# Altium schematic symbol library adafruit.SCHLIB: 884 symbols (part 10 of 15)
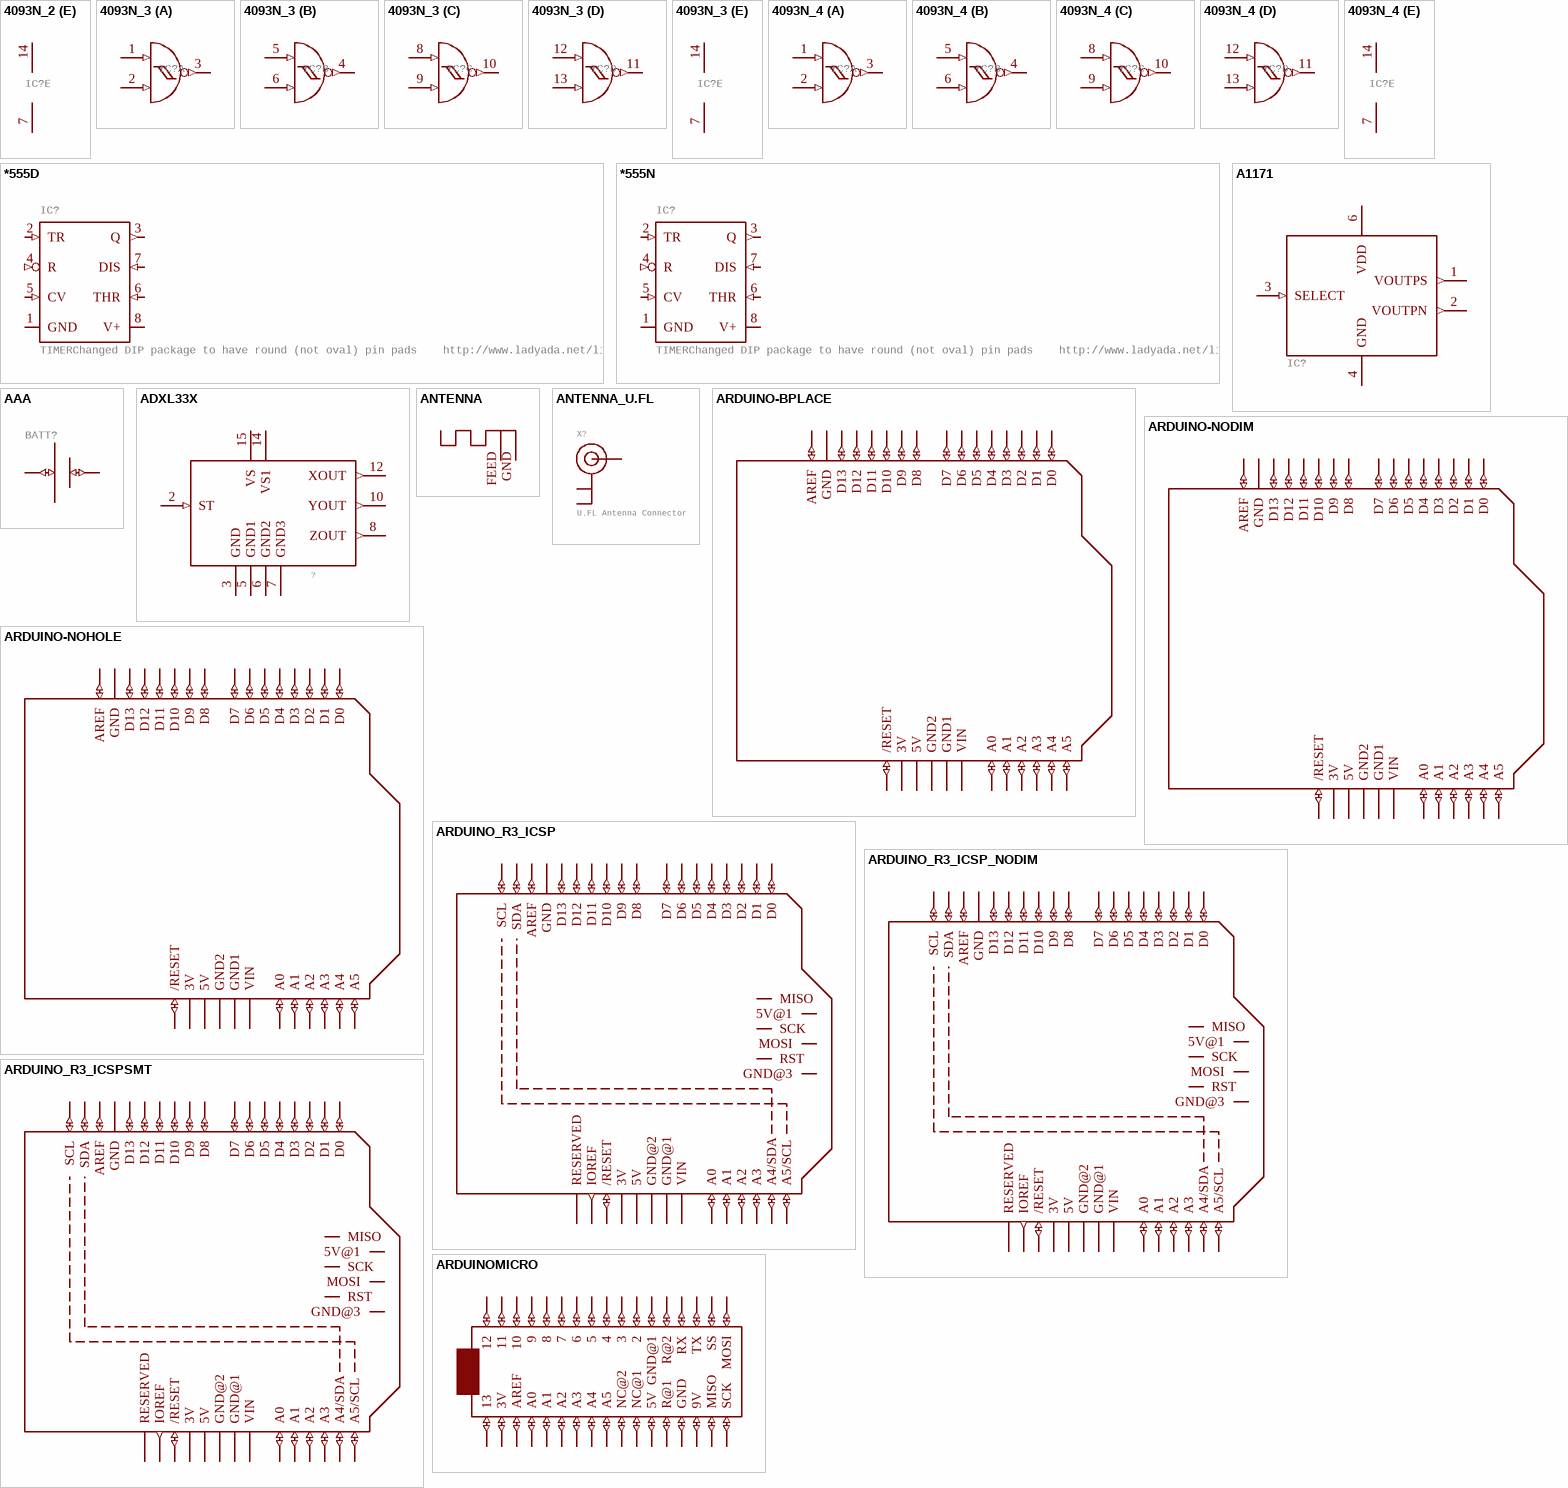
[diagram p197: symbols 4093N_2 to ARDUINOMICRO]

## AAA
designator BATT?, comment AAA PC pin holder   Mouser part #12BH412 - but pretty much any 1x AAA battery holder should be the same    http://www.ladyada.net/library/pcb/eaglelibrary.html  (value not drawn)
GateName_1: G$1; SymbolName_1: AAA; LibraryName: adafruit; DeviceSetName: AAA; Package: 12BH412
footprint 12BH412
pins: + (io), - (io)

## ADXL33X
designator ?
GateName_1: G$1; SymbolName_1: ADXL33X; LibraryName: adafruit; DeviceSetName: ADXL33X; Package: 16LCSP
footprint 16LCSP
pins: 2 ST (in), 3 GND (power), 5 GND1 (power), 6 GND2 (power), 7 GND3 (power), 8 ZOUT (out), 10 YOUT (out), 12 XOUT (out), 14 VS1 (power), 15 VS (power)

## ANTENNA
designator ANT?
GateName_1: G$1; SymbolName_1: ANT; DeviceSetName: ANTENNA; LibraryName: adafruit; Package: RN-ANT
footprint RN-ANT
pins: FEED, GND

## ANTENNA_U.FL
designator X?, comment U.FL Antenna Connector
GateName_1: G$1; DeviceSetName: ANTENNA_U.FL; SymbolName_1: U.FL; LibraryName: adafruit; Package: U.FL
footprint U.FL
pins: 1 GND@0, 2 GND@1, 3 SIGNAL

## ARDUINO-BPLACE
designator ?, comment Arduino Diecimila/Duemilanove   Make a shield with ease, this package has all the named pins as well as the two mounting drill holes and an outline of the USB and DC power connector. The outline is on the DIMENSION layer, so if your board house uses it they will cut the outline to match.    http://www.ladyada.net/library/pcb/eaglelibrary.html  (value not drawn)
GateName_1: G$1; DeviceName: -BPLACE; SymbolName_1: ARDUINO; LibraryName: adafruit; DeviceSetName: ARDUINO; Package: ARDUINO-BPLACE
footprint ARDUINO-BPLACE
pins: 3V (power), 5V (power), A0 (io), A1 (io), A2 (io), A3 (io), A4 (io), A5 (io), AREF (io), D0 (io), D1 (io), D2 (io), D3 (io), D4 (io), D5 (io), D6 (io), D7 (io), D8 (io), D9 (io), D10 (io), D11 (io), D12 (io), D13 (io), GND (power), GND1 (power), GND2 (power), RESET /RESET (io), VIN (power)

## ARDUINO-NODIM
designator ?, comment Arduino Diecimila/Duemilanove   Make a shield with ease, this package has all the named pins as well as the two mounting drill holes and an outline of the USB and DC power connector. The outline is on the DIMENSION layer, so if your board house uses it they will cut the outline to match.    http://www.ladyada.net/library/pcb/eaglelibrary.html  (value not drawn)
GateName_1: G$1; DeviceName: -NODIM; SymbolName_1: ARDUINO; LibraryName: adafruit; DeviceSetName: ARDUINO; Package: ARDUINO-NODIM
footprint ARDUINO-NODIM
pins: 3V (power), 5V (power), A0 (io), A1 (io), A2 (io), A3 (io), A4 (io), A5 (io), AREF (io), D0 (io), D1 (io), D2 (io), D3 (io), D4 (io), D5 (io), D6 (io), D7 (io), D8 (io), D9 (io), D10 (io), D11 (io), D12 (io), D13 (io), GND (power), GND1 (power), GND2 (power), RESET /RESET (io), VIN (power)

## ARDUINO-NOHOLE
designator ?, comment Arduino Diecimila/Duemilanove   Make a shield with ease, this package has all the named pins as well as the two mounting drill holes and an outline of the USB and DC power connector. The outline is on the DIMENSION layer, so if your board house uses it they will cut the outline to match.    http://www.ladyada.net/library/pcb/eaglelibrary.html  (value not drawn)
GateName_1: G$1; DeviceName: -NOHOLE; SymbolName_1: ARDUINO; LibraryName: adafruit; DeviceSetName: ARDUINO; Package: ARDUINO-NOHOLE
footprint ARDUINO-NOHOLE
pins: 3V (power), 5V (power), A0 (io), A1 (io), A2 (io), A3 (io), A4 (io), A5 (io), AREF (io), D0 (io), D1 (io), D2 (io), D3 (io), D4 (io), D5 (io), D6 (io), D7 (io), D8 (io), D9 (io), D10 (io), D11 (io), D12 (io), D13 (io), GND (power), GND1 (power), GND2 (power), RESET /RESET (io), VIN (power)

## ARDUINO_R3_ICSP
designator M?
GateName_1: G$1; SymbolName_1: ARDUINOR3-ICSP; DeviceSetName: ARDUINO_R3_ICSP; LibraryName: adafruit; Package: ARDUINOR3_ICSP
footprint ARDUINOR3_ICSP
pins: 3V (power), 5V (power), 5V_ICSP 5V@1, A0 (io), A1 (io), A2 (io), A3 (io), A4 A4/SDA (io), A5 A5/SCL (io), AREF (io), D0 (io), D1 (io), D2 (io), D3 (io), D4 (io), D5 (io), D6 (io), D7 (io), D8 (io), D9 (io), D10 (io), D11 (io), D12 (io), D13 (io), GND (power), GND@1 GND@2 (power), GND@2 GND@3, GND@3 GND@1 (power), IOREF (out), MISO, MOSI, RESERVED, RESET /RESET (io), RESET_ICSP RST, SCK, SCL (io), SDA (io), VIN (power)

## ARDUINO_R3_ICSP_NODIM
designator M?
GateName_1: G$1; SymbolName_1: ARDUINOR3-ICSP; DeviceName: _NODIM; DeviceSetName: ARDUINO_R3_ICSP; LibraryName: adafruit; Package: ARDUINOR3_ICSP_NODIM
footprint ARDUINOR3_ICSP_NODIM
pins: 3V (power), 5V (power), 5V_ICSP 5V@1, A0 (io), A1 (io), A2 (io), A3 (io), A4 A4/SDA (io), A5 A5/SCL (io), AREF (io), D0 (io), D1 (io), D2 (io), D3 (io), D4 (io), D5 (io), D6 (io), D7 (io), D8 (io), D9 (io), D10 (io), D11 (io), D12 (io), D13 (io), GND (power), GND@1 GND@2 (power), GND@2 GND@3, GND@3 GND@1 (power), IOREF (out), MISO, MOSI, RESERVED, RESET /RESET (io), RESET_ICSP RST, SCK, SCL (io), SDA (io), VIN (power)

## ARDUINO_R3_ICSPSMT
designator M?
GateName_1: G$1; SymbolName_1: ARDUINOR3-ICSP; DeviceName: SMT; DeviceSetName: ARDUINO_R3_ICSP; LibraryName: adafruit; Package: ARDUINOR3_ICSP_SMT
footprint ARDUINOR3_ICSP_SMT
pins: 3V (power), 5V (power), 5V_ICSP 5V@1, A0 (io), A1 (io), A2 (io), A3 (io), A4 A4/SDA (io), A5 A5/SCL (io), AREF (io), D0 (io), D1 (io), D2 (io), D3 (io), D4 (io), D5 (io), D6 (io), D7 (io), D8 (io), D9 (io), D10 (io), D11 (io), D12 (io), D13 (io), GND (power), GND@1 (power), GND@2 (power), GND@3, IOREF (out), MISO, MOSI, RESERVED, RESET /RESET (io), RESET_ICSP RST, SCK, SCL (io), SDA (io), VIN (power)

## ARDUINOMICRO
designator ?
GateName_1: G$1; SymbolName_1: ARDUINOMICRO; LibraryName: adafruit; DeviceSetName: ARDUINOMICRO; Package: ARDUINOMICRO
footprint ARDUINOMICRO
pins: P$1 12 (io), P$2 11 (io), P$3 10 (io), P$4 9 (io), P$5 8 (io), P$6 7 (io), P$7 6 (io), P$8 5 (io), P$9 4 (io), P$10 3 (io), P$11 2 (io), P$12 GND (io), P$13 R@1 (io), P$14 RX (io), P$15 TX (io), P$16 SS (io), P$17 MOSI (io), P$18 SCK (io), P$19 MISO (io), P$20 9V (io), P$21 GND@1 (io), P$22 R@2 (io), P$23 5V (io), P$24 NC@1 (io), P$25 NC@2 (io), P$26 A5 (io), P$27 A4 (io), P$28 A3 (io), P$29 A2 (io), P$30 A1 (io), P$31 A0 (io), P$32 AREF (io), P$33 3V (io), P$34 13 (io)

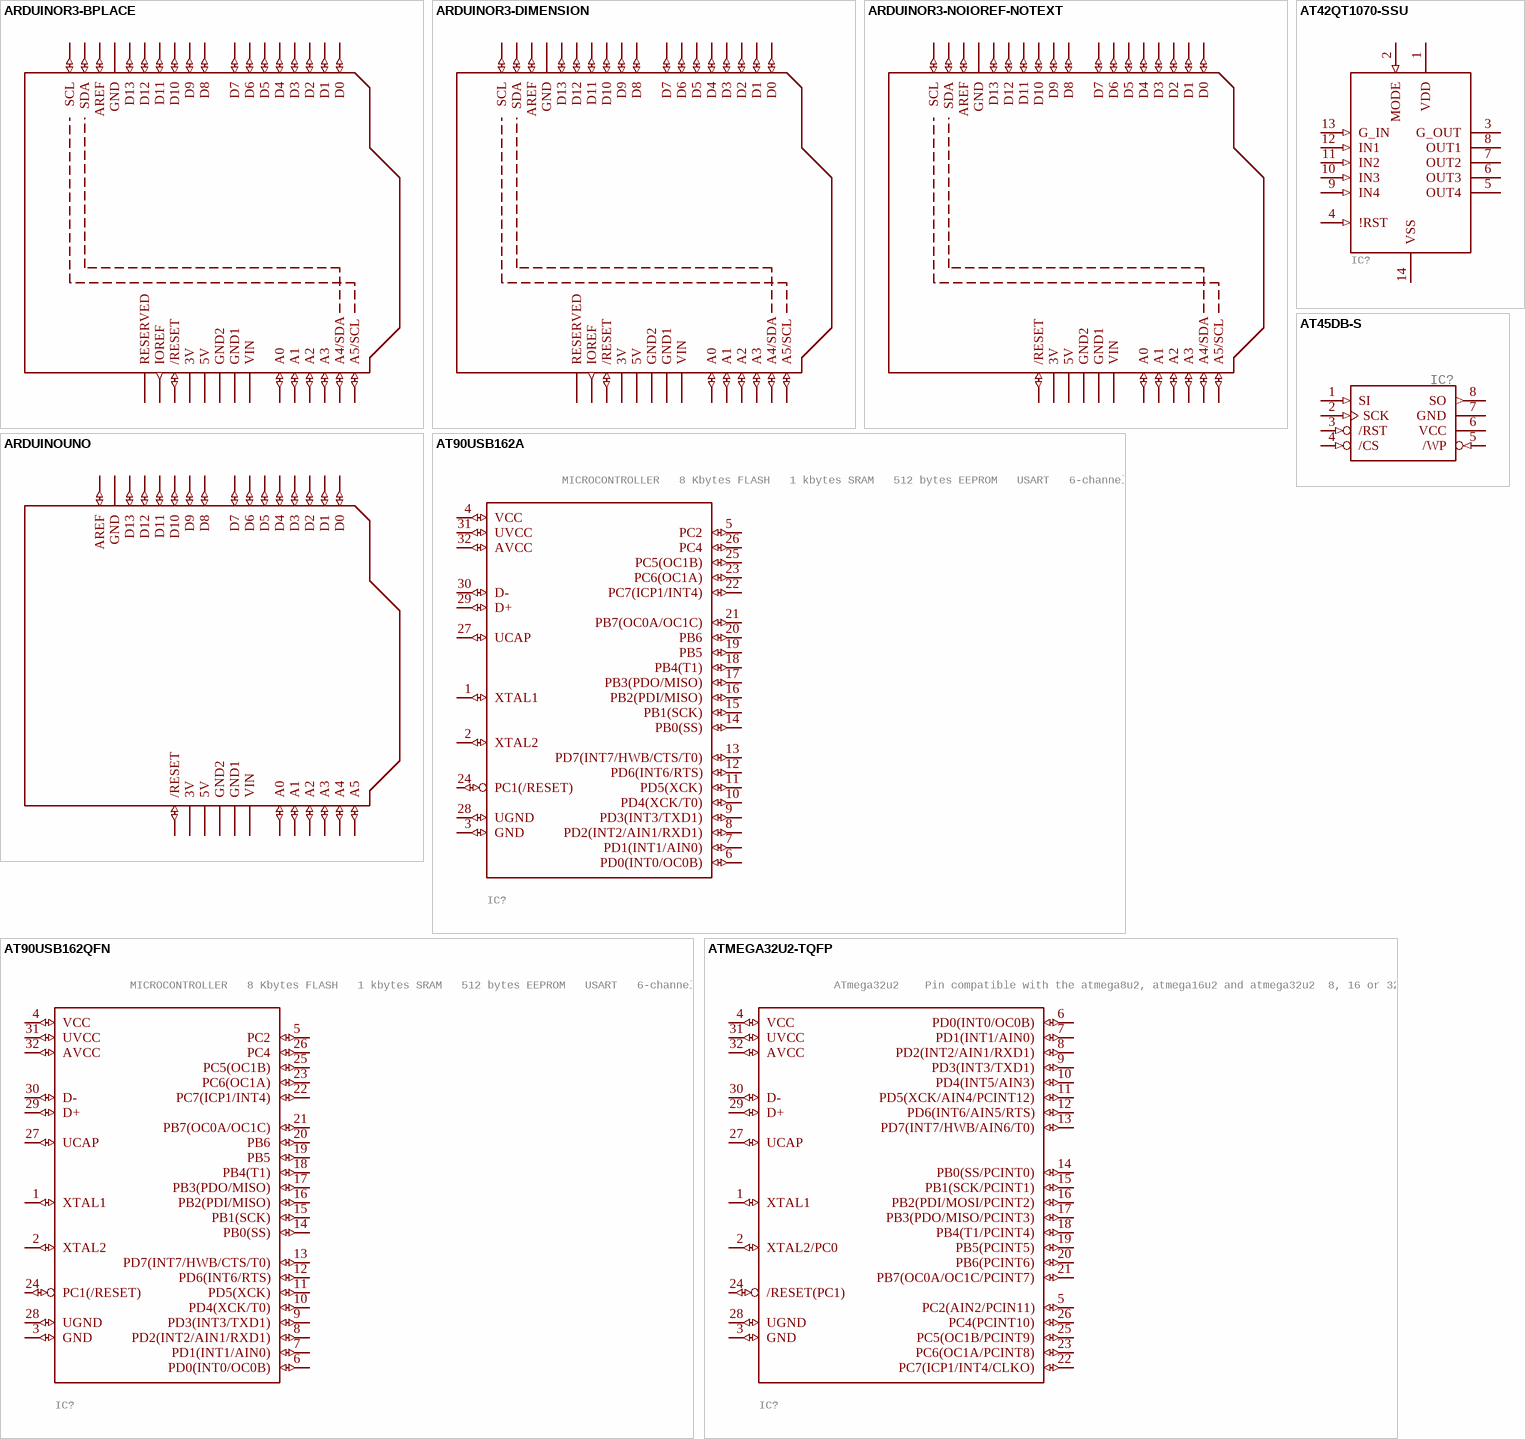
[diagram p165: symbols ARDUINOR3-BPLACE to ATMEGA32U2-TQFP]

## ARDUINOR3-BPLACE
designator U?, comment This is a new object for the new Arduino R3 - with extra pins that you may want to use (such as IOref, and duplicated A4/A5  (value not drawn)
GateName_1: G$1; DeviceName: -BPLACE; SymbolName_1: ARDUINOR3; LibraryName: adafruit; DeviceSetName: ARDUINOR3; Package: ARDUINOR3-BPLACE
footprint ARDUINOR3-BPLACE
pins: 3V (power), 5V (power), A0 (io), A1 (io), A2 (io), A3 (io), A4 A4/SDA (io), A5 A5/SCL (io), AREF (io), D0 (io), D1 (io), D2 (io), D3 (io), D4 (io), D5 (io), D6 (io), D7 (io), D8 (io), D9 (io), D10 (io), D11 (io), D12 (io), D13 (io), GND (power), GND1 (power), GND2 (power), IOREF (out), RESERVED, RESET /RESET (io), SCL (io), SDA (io), VIN (power)

## ARDUINOR3-DIMENSION
designator U?, comment This is a new object for the new Arduino R3 - with extra pins that you may want to use (such as IOref, and duplicated A4/A5  (value not drawn)
GateName_1: G$1; DeviceName: -DIMENSION; SymbolName_1: ARDUINOR3; LibraryName: adafruit; DeviceSetName: ARDUINOR3; Package: ARDUINOR3
footprint ARDUINOR3
pins: 3V (power), 5V (power), A0 (io), A1 (io), A2 (io), A3 (io), A4 A4/SDA (io), A5 A5/SCL (io), AREF (io), D0 (io), D1 (io), D2 (io), D3 (io), D4 (io), D5 (io), D6 (io), D7 (io), D8 (io), D9 (io), D10 (io), D11 (io), D12 (io), D13 (io), GND (power), GND1 (power), GND2 (power), IOREF (out), RESERVED, RESET /RESET (io), SCL (io), SDA (io), VIN (power)

## ARDUINOR3-NOIOREF-NOTEXT
designator Q?
GateName_1: G$1; SymbolName_1: ARDUINOR3-NOIOREF; DeviceName: -NOTEXT; LibraryName: adafruit; DeviceSetName: ARDUINOR3-NOIOREF; Package: ARDUINOR3-NOTEXT-NOIOREF
footprint ARDUINOR3-NOTEXT-NOIOREF
pins: 3V (power), 5V (power), A0 (io), A1 (io), A2 (io), A3 (io), A4 A4/SDA (io), A5 A5/SCL (io), AREF (io), D0 (io), D1 (io), D2 (io), D3 (io), D4 (io), D5 (io), D6 (io), D7 (io), D8 (io), D9 (io), D10 (io), D11 (io), D12 (io), D13 (io), GND (power), GND1 (power), GND2 (power), RESET /RESET (io), SCL (io), SDA (io), VIN (power)

## ARDUINOUNO
designator ?, comment Arduino Diecimila/Duemilanove   Make a shield with ease, this package has all the named pins as well as the two mounting drill holes and an outline of the USB and DC power connector. The outline is on the DIMENSION layer, so if your board house uses it they will cut the outline to match.    http://www.ladyada.net/library/pcb/eaglelibrary.html  (value not drawn)
GateName_1: G$1; DeviceName: UNO; SymbolName_1: ARDUINO; LibraryName: adafruit; DeviceSetName: ARDUINO; Package: ARDUINO
footprint ARDUINO
pins: 3V (power), 5V (power), A0 (io), A1 (io), A2 (io), A3 (io), A4 (io), A5 (io), AREF (io), D0 (io), D1 (io), D2 (io), D3 (io), D4 (io), D5 (io), D6 (io), D7 (io), D8 (io), D9 (io), D10 (io), D11 (io), D12 (io), D13 (io), GND (power), GND1 (power), GND2 (power), RESET /RESET (io), VIN (power)

## AT42QT1070-SSU
designator IC?, comment QTouch 5-channel standalone sensor IC AT42QT1070 in standalone mode has 5 inputs (guard + 4 key) and open drain outputs. 1.8V-5.5V power.  (value not drawn)
GateName_1: G$1; DeviceName: -SSU; SymbolName_1: AT42QT1070; LibraryName: adafruit; DeviceSetName: AT42QT1070; Package: SO14
footprint SO14
pins: 1 VDD (power), 2 MODE (in), 3 G_OUT (oc), 4 !RST (in), 5 OUT4 (oc), 6 OUT3 (oc), 7 OUT2 (oc), 8 OUT1 (oc), 9 IN4 (in), 10 IN3 (in), 11 IN2 (in), 12 IN1 (in), 13 G_IN (in), 14 VSS (power)

## AT45DB-S
designator IC?
GateName_1: G$1; SymbolName_1: AT45DBXXX; DeviceName: -S; DeviceSetName: AT45DB; LibraryName: adafruit; Package: SOIC8_208MIL
footprint SOIC8_208MIL
pins: 1 SI (in), 2 SCK (in), 3 /RST (in), 4 /CS (in), 5 /WP (in), 6 VCC (power), 7 GND (power), 8 SO (out)

## AT90USB162A
designator IC?, comment MICROCONTROLLER   8 Kbytes FLASH   1 kbytes SRAM   512 bytes EEPROM   USART   6-channel 10 bit ADC   2-channel 8 bit ADC
GateName_1: G$1; SymbolName_1: AT90USB162; DeviceName: A; LibraryName: adafruit; DeviceSetName: AT90USB162; Package: TQFP32-08
footprint TQFP32-08
pins: 1 XTAL1 (io), 2 XTAL2 (io), 3 GND (io), 4 VCC (io), 5 PC2 (io), 6 PD0(INT0/OC0B) (io), 7 PD1(INT1/AIN0) (io), 8 PD2(INT2/AIN1/RXD1) (io), 9 PD3(INT3/TXD1) (io), 10 PD4(XCK/T0) (io), 11 PD5(XCK) (io), 12 PD6(INT6/RTS) (io), 13 PD7(INT7/HWB/CTS/T0) (io), 14 PB0(SS) (io), 15 PB1(SCK) (io), 16 PB2(PDI/MISO) (io), 17 PB3(PDO/MISO) (io), 18 PB4(T1) (io), 19 PB5 (io), 20 PB6 (io), 21 PB7(OC0A/OC1C) (io), 22 PC7(ICP1/INT4) (io), 23 PC6(OC1A) (io), 24 PC1(/RESET) (io), 25 PC5(OC1B) (io), 26 PC4 (io), 27 UCAP (io), 28 UGND (io), 29 D+ (io), 30 D- (io), 31 UVCC (io), 32 AVCC (io)

## AT90USB162QFN
designator IC?, comment MICROCONTROLLER   8 Kbytes FLASH   1 kbytes SRAM   512 bytes EEPROM   USART   6-channel 10 bit ADC   2-channel 8 bit ADC
GateName_1: G$1; SymbolName_1: AT90USB162; DeviceName: QFN; LibraryName: adafruit; DeviceSetName: AT90USB162; Package: MLF32
footprint MLF32
pins: 1 XTAL1 (io), 2 XTAL2 (io), 3 GND (io), 4 VCC (io), 5 PC2 (io), 6 PD0(INT0/OC0B) (io), 7 PD1(INT1/AIN0) (io), 8 PD2(INT2/AIN1/RXD1) (io), 9 PD3(INT3/TXD1) (io), 10 PD4(XCK/T0) (io), 11 PD5(XCK) (io), 12 PD6(INT6/RTS) (io), 13 PD7(INT7/HWB/CTS/T0) (io), 14 PB0(SS) (io), 15 PB1(SCK) (io), 16 PB2(PDI/MISO) (io), 17 PB3(PDO/MISO) (io), 18 PB4(T1) (io), 19 PB5 (io), 20 PB6 (io), 21 PB7(OC0A/OC1C) (io), 22 PC7(ICP1/INT4) (io), 23 PC6(OC1A) (io), 24 PC1(/RESET) (io), 25 PC5(OC1B) (io), 26 PC4 (io), 27 UCAP (io), 28 UGND (io), 29 D+ (io), 30 D- (io), 31 UVCC (io), 32 AVCC (io)

## ATMEGA32U2-TQFP
designator IC?, comment ATmega32u2    Pin compatible with the atmega8u2, atmega16u2 and atmega32u2  8, 16 or 32 K flash, 1K RAM, 512b EEPROM  8 bit and 16 bit timer (5 PWM total)  UART, SPI (no I2C!)  USB with 4 endpoints, LUFA compatible  22 I/O lines, analog comparator (no ADC!)  Comes with DFU bootloader burned in!
GateName_1: G$1; DeviceName: -TQFP; SymbolName_1: ATMEGA32U2; LibraryName: adafruit; DeviceSetName: ATMEGA32U2; Package: TQFP32-08
footprint TQFP32-08
pins: 1 XTAL1 (io), 2 XTAL2/PC0 (io), 3 GND (io), 4 VCC (io), 5 PC2(AIN2/PCIN11) (io), 6 PD0(INT0/OC0B) (io), 7 PD1(INT1/AIN0) (io), 8 PD2(INT2/AIN1/RXD1) (io), 9 PD3(INT3/TXD1) (io), 10 PD4(INT5/AIN3) (io), 11 PD5(XCK/AIN4/PCINT12) (io), 12 PD6(INT6/AIN5/RTS) (io), 13 PD7(INT7/HWB/AIN6/T0) (io), 14 PB0(SS/PCINT0) (io), 15 PB1(SCK/PCINT1) (io), 16 PB2(PDI/MOSI/PCINT2) (io), 17 PB3(PDO/MISO/PCINT3) (io), 18 PB4(T1/PCINT4) (io), 19 PB5(PCINT5) (io), 20 PB6(PCINT6) (io), 21 PB7(OC0A/OC1C/PCINT7) (io), 22 PC7(ICP1/INT4/CLKO) (io), 23 PC6(OC1A/PCINT8) (io), 24 /RESET(PC1) (io), 25 PC5(OC1B/PCINT9) (io), 26 PC4(PCINT10) (io), 27 UCAP (io), 28 UGND (io), 29 D+ (io), 30 D- (io), 31 UVCC (io), 32 AVCC (io)

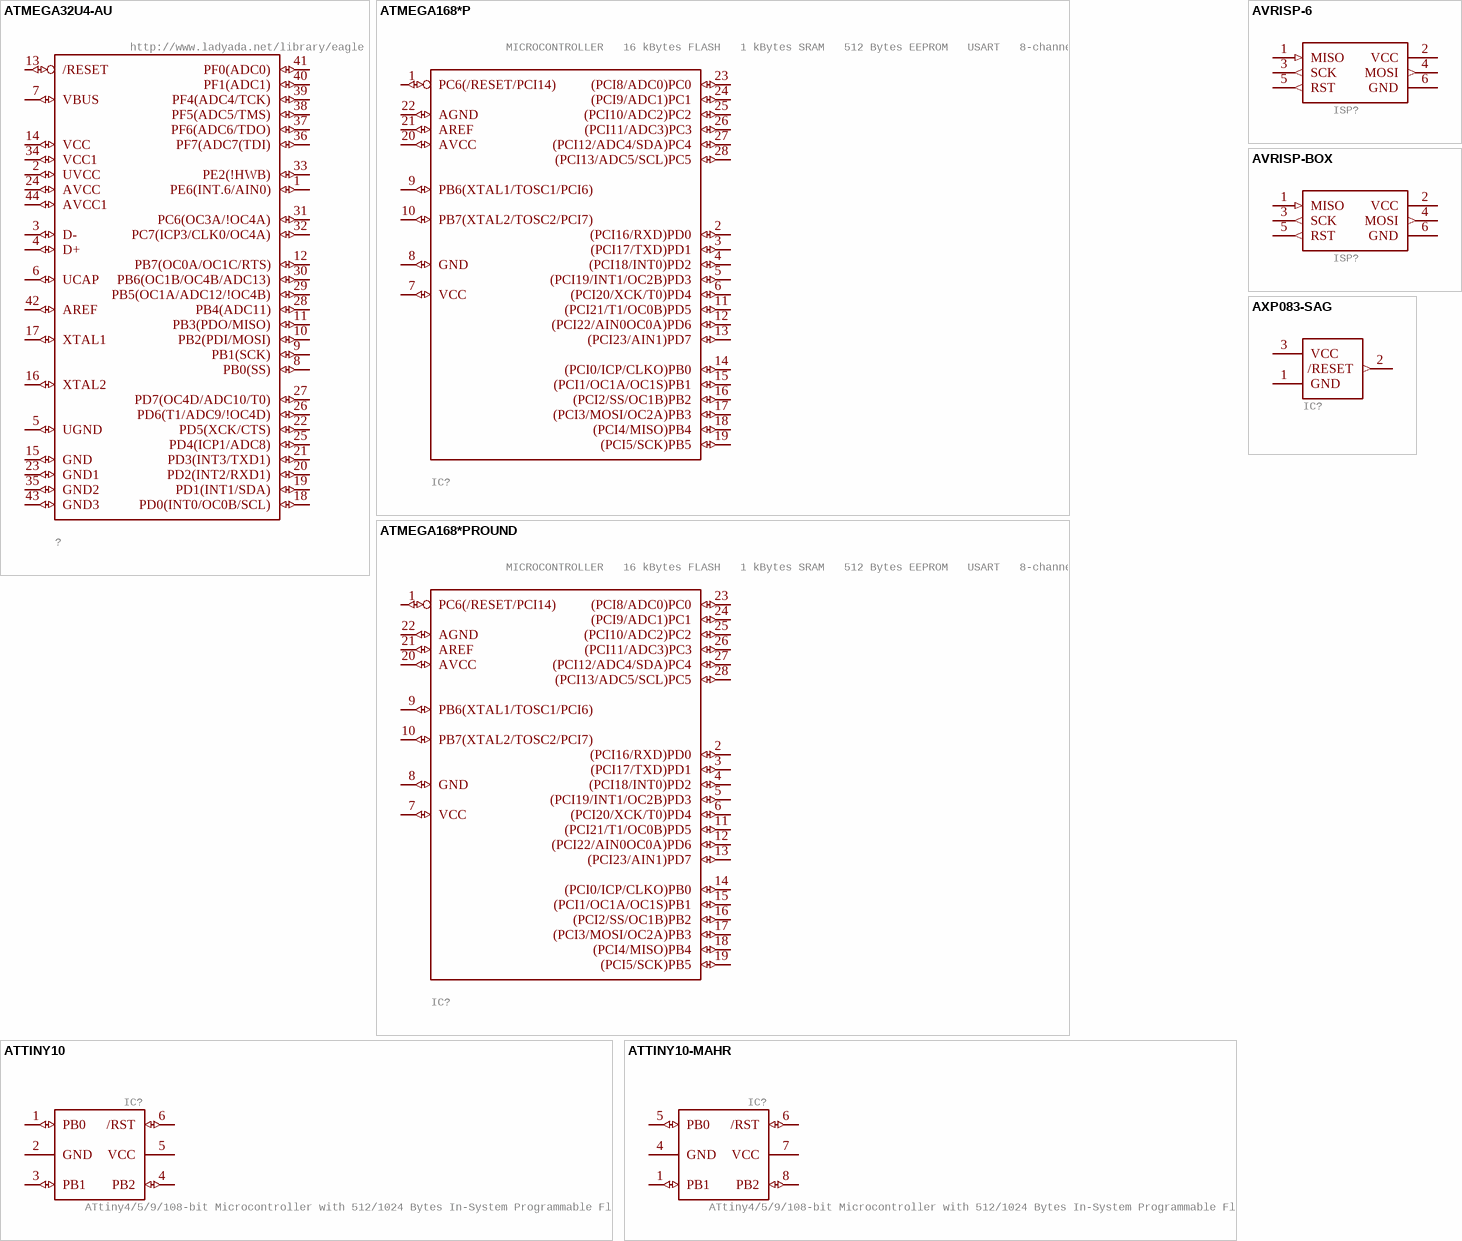
[diagram p166: symbols ATMEGA32U4-AU to AXP083-SAG]

## ATMEGA32U4-AU
designator ?, comment http://www.ladyada.net/library/eagle
GateName_1: G$1; SymbolName_1: ATMEGA32U4; DeviceName: -AU; LibraryName: adafruit; DeviceSetName: ATMEGA32U4; Package: TQFP44
footprint TQFP44
pins: 1 PE6(INT.6/AIN0) (io), 2 UVCC (io), 3 D- (io), 4 D+ (io), 5 UGND (io), 6 UCAP (io), 7 VBUS (io), 8 PB0(SS) (io), 9 PB1(SCK) (io), 10 PB2(PDI/MOSI) (io), 11 PB3(PDO/MISO) (io), 12 PB7(OC0A/OC1C/RTS) (io), 13 /RESET (io), 14 VCC (io), 15 GND (io), 16 XTAL2 (io), 17 XTAL1 (io), 18 PD0(INT0/OC0B/SCL) (io), 19 PD1(INT1/SDA) (io), 20 PD2(INT2/RXD1) (io), 21 PD3(INT3/TXD1) (io), 22 PD5(XCK/CTS) (io), 23 GND1 (io), 24 AVCC (io), 25 PD4(ICP1/ADC8) (io), 26 PD6(T1/ADC9/!OC4D) (io), 27 PD7(OC4D/ADC10/T0) (io), 28 PB4(ADC11) (io), 29 PB5(OC1A/ADC12/!OC4B) (io), 30 PB6(OC1B/OC4B/ADC13) (io), 31 PC6(OC3A/!OC4A) (io), 32 PC7(ICP3/CLK0/OC4A) (io), 33 PE2(!HWB) (io), 34 VCC1 (io), 35 GND2 (io), 36 PF7(ADC7(TDI) (io), 37 PF6(ADC6/TDO) (io), 38 PF5(ADC5/TMS) (io), 39 PF4(ADC4/TCK) (io), 40 PF1(ADC1) (io), 41 PF0(ADC0) (io), 42 AREF (io), 43 GND3 (io), 44 AVCC1 (io)

## ATMEGA168*P
designator IC?, comment MICROCONTROLLER   16 kBytes FLASH   1 kBytes SRAM   512 Bytes EEPROM   USART   8-channel 10 bit ADC
GateName_1: G$1; SymbolName_1: MEGA168; DeviceSetName: ATMEGA168*P; LibraryName: adafruit; Package: DIL28-3
footprint DIL28-3
pins: 1 PC6(/RESET/PCI14) (io), 2 (PCI16/RXD)PD0 (io), 3 (PCI17/TXD)PD1 (io), 4 (PCI18/INT0)PD2 (io), 5 (PCI19/INT1/OC2B)PD3 (io), 6 (PCI20/XCK/T0)PD4 (io), 7 VCC (io), 8 GND (io), 9 PB6(XTAL1/TOSC1/PCI6) (io), 10 PB7(XTAL2/TOSC2/PCI7) (io), 11 (PCI21/T1/OC0B)PD5 (io), 12 (PCI22/AIN0OC0A)PD6 (io), 13 (PCI23/AIN1)PD7 (io), 14 (PCI0/ICP/CLKO)PB0 (io), 15 (PCI1/OC1A/OC1S)PB1 (io), 16 (PCI2/SS/OC1B)PB2 (io), 17 (PCI3/MOSI/OC2A)PB3 (io), 18 (PCI4/MISO)PB4 (io), 19 (PCI5/SCK)PB5 (io), 20 AVCC (io), 21 AREF (io), 22 AGND (io), 23 (PCI8/ADC0)PC0 (io), 24 (PCI9/ADC1)PC1 (io), 25 (PCI10/ADC2)PC2 (io), 26 (PCI11/ADC3)PC3 (io), 27 (PCI12/ADC4/SDA)PC4 (io), 28 (PCI13/ADC5/SCL)PC5 (io)

## ATMEGA168*PROUND
designator IC?, comment MICROCONTROLLER   16 kBytes FLASH   1 kBytes SRAM   512 Bytes EEPROM   USART   8-channel 10 bit ADC
GateName_1: G$1; SymbolName_1: MEGA168; DeviceName: ROUND; DeviceSetName: ATMEGA168*P; LibraryName: adafruit; Package: DIL28-3-ROUND
footprint DIL28-3-ROUND
pins: 1 PC6(/RESET/PCI14) (io), 2 (PCI16/RXD)PD0 (io), 3 (PCI17/TXD)PD1 (io), 4 (PCI18/INT0)PD2 (io), 5 (PCI19/INT1/OC2B)PD3 (io), 6 (PCI20/XCK/T0)PD4 (io), 7 VCC (io), 8 GND (io), 9 PB6(XTAL1/TOSC1/PCI6) (io), 10 PB7(XTAL2/TOSC2/PCI7) (io), 11 (PCI21/T1/OC0B)PD5 (io), 12 (PCI22/AIN0OC0A)PD6 (io), 13 (PCI23/AIN1)PD7 (io), 14 (PCI0/ICP/CLKO)PB0 (io), 15 (PCI1/OC1A/OC1S)PB1 (io), 16 (PCI2/SS/OC1B)PB2 (io), 17 (PCI3/MOSI/OC2A)PB3 (io), 18 (PCI4/MISO)PB4 (io), 19 (PCI5/SCK)PB5 (io), 20 AVCC (io), 21 AREF (io), 22 AGND (io), 23 (PCI8/ADC0)PC0 (io), 24 (PCI9/ADC1)PC1 (io), 25 (PCI10/ADC2)PC2 (io), 26 (PCI11/ADC3)PC3 (io), 27 (PCI12/ADC4/SDA)PC4 (io), 28 (PCI13/ADC5/SCL)PC5 (io)

## ATTINY10
designator IC?, comment ATtiny4/5/9/108-bit Microcontroller with 512/1024 Bytes In-System Programmable Flash
GateName_1: G$1; SymbolName_1: ATTINY10; LibraryName: adafruit; DeviceSetName: ATTINY10; Package: SOT23-6
footprint SOT23-6
pins: 1 PB0 (io), 2 GND (power), 3 PB1 (io), 4 PB2 (io), 5 VCC (power), 6 /RST (io)

## ATTINY10-MAHR
designator IC?, comment ATtiny4/5/9/108-bit Microcontroller with 512/1024 Bytes In-System Programmable Flash
GateName_1: G$1; SymbolName_1: ATTINY10; DeviceName: -MAHR; LibraryName: adafruit; DeviceSetName: ATTINY10; Package: UDFN-8
footprint UDFN-8
pins: 1 PB1 (io), 4 GND (power), 5 PB0 (io), 6 /RST (io), 7 VCC (power), 8 PB2 (io)

## AVRISP-6
designator ISP?, comment AVR ISP HEADER Standard 6 pin header for AVR programming  (value not drawn)
GateName_1: G$1; SymbolName_1: AVRISP; DeviceName: -6; LibraryName: adafruit; DeviceSetName: AVRISP; Package: AVRISP
footprint AVRISP
pins: 1 MISO (in), 2 VCC (power), 3 SCK (out), 4 MOSI (out), 5 RST (out), 6 GND (power)

## AVRISP-BOX
designator ISP?, comment AVR ISP HEADER Standard 6 pin header for AVR programming  (value not drawn)
GateName_1: G$1; SymbolName_1: AVRISP; DeviceName: -BOX; LibraryName: adafruit; DeviceSetName: AVRISP; Package: AVRISP-BOX
footprint AVRISP-BOX
pins: 1 MISO (in), 2 VCC (power), 3 SCK (out), 4 MOSI (out), 5 RST (out), 6 GND (power)

## AXP083-SAG
designator IC?
GateName_1: G$1; SymbolName_1: RESET_SUPERVISOR; DeviceName: -SAG; DeviceSetName: AXP083; LibraryName: adafruit; Package: SOT23
footprint SOT23
pins: 1 GND (power), 2 /RESET (out), 3 VCC (power)

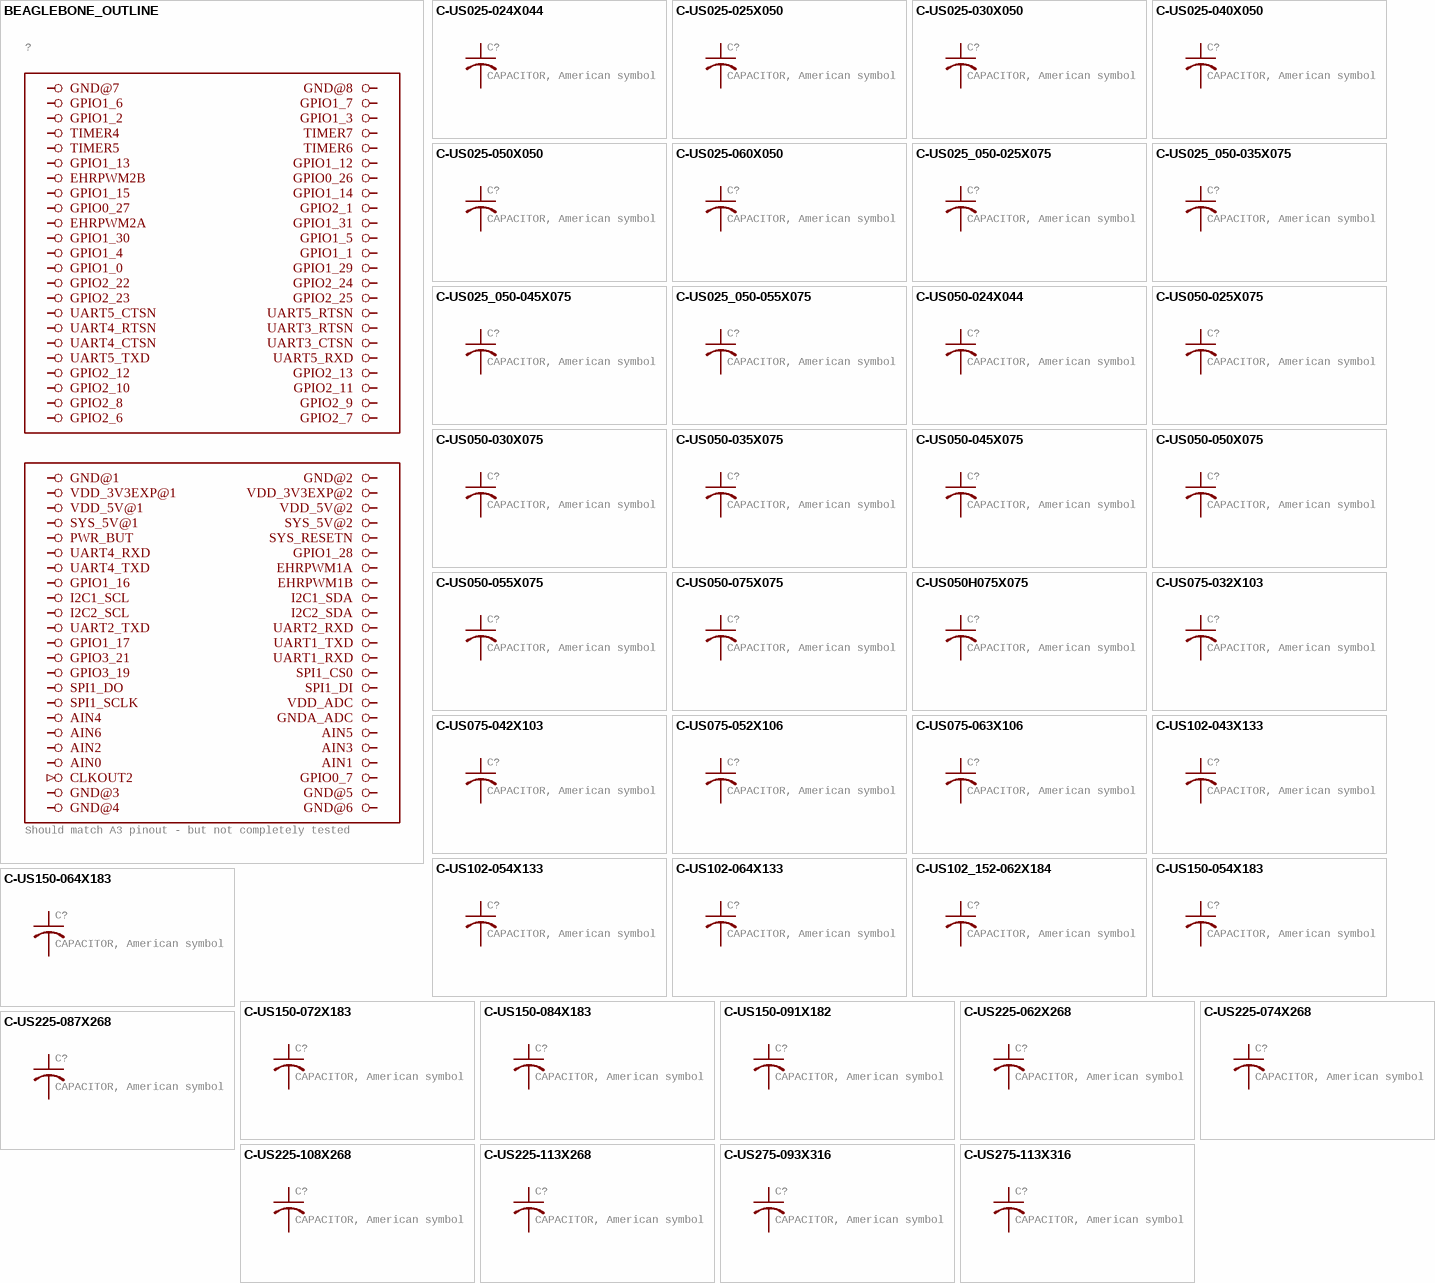
[diagram p167: symbols BEAGLEBONE_OUTLINE to C-US275-113X316]

## BEAGLEBONE_OUTLINE
designator ?, comment Should match A3 pinout - but not completely tested
GateName_1: G$1; SymbolName_1: BEAGLEBONE-1; DeviceSetName: BEAGLEBONE_OUTLINE; LibraryName: adafruit; Package: BEAGLEBONE_SHIELD
footprint BEAGLEBONE_SHIELD
pins: 1 GND@7 (power), 2 GND@8 (power), 3 GPIO1_6, 4 GPIO1_7, 5 GPIO1_2, 6 GPIO1_3, 7 TIMER4, 8 TIMER7, 9 TIMER5, 10 TIMER6, 11 GPIO1_13, 12 GPIO1_12, 13 EHRPWM2B, 14 GPIO0_26, 15 GPIO1_15, 16 GPIO1_14, 17 GPIO0_27, 18 GPIO2_1, 19 EHRPWM2A, 20 GPIO1_31, 21 GPIO1_30, 22 GPIO1_5, 23 GPIO1_4, 24 GPIO1_1, 25 GPIO1_0, 26 GPIO1_29, 27 GPIO2_22, 28 GPIO2_24, 29 GPIO2_23, 30 GPIO2_25, 31 UART5_CTSN, 32 UART5_RTSN, 33 UART4_RTSN, 34 UART3_RTSN, 35 UART4_CTSN, 36 UART3_CTSN, 37 UART5_TXD, 38 UART5_RXD, 39 GPIO2_12, 40 GPIO2_13, 41 GPIO2_10, 42 GPIO2_11, 43 GPIO2_8, 44 GPIO2_9, 45 GPIO2_6, 46 GPIO2_7, 47 GND@1 (power), 48 GND@2 (power), 49 VDD_3V3EXP@1 (power), 50 VDD_3V3EXP@2 (power), 51 VDD_5V@1 (power), 52 VDD_5V@2 (power), 53 SYS_5V@1 (power), 54 SYS_5V@2, 55 PWR_BUT, 56 SYS_RESETN, 57 UART4_RXD, 58 GPIO1_28, 59 UART4_TXD, 60 EHRPWM1A, 61 GPIO1_16, 62 EHRPWM1B, 63 I2C1_SCL, 64 I2C1_SDA, 65 I2C2_SCL, 66 I2C2_SDA, 67 UART2_TXD, 68 UART2_RXD, 69 GPIO1_17, 70 UART1_TXD, 71 GPIO3_21, 72 UART1_RXD, 73 GPIO3_19, 74 SPI1_CS0, 75 SPI1_DO, 76 SPI1_DI, 77 SPI1_SCLK, 78 VDD_ADC, 79 AIN4, 80 GNDA_ADC, 81 AIN6, 82 AIN5, 83 AIN2, 84 AIN3, 85 AIN0 (power), 86 AIN1, 87 CLKOUT2 (in), 88 GPIO0_7, 89 GND@3 (power), 90 GND@5 (power), 91 GND@4 (power), 92 GND@6 (power)

## C-US025-024X044
designator C?, comment CAPACITOR, American symbol
GateName_1: G$1; SymbolName_1: C-US; DeviceName: 025-024X044; LibraryName: adafruit; DeviceSetName: C-US; Package: C025-024X044
footprint C025-024X044
pins: 1, 2

## C-US025-025X050
designator C?, comment CAPACITOR, American symbol
GateName_1: G$1; SymbolName_1: C-US; DeviceName: 025-025X050; LibraryName: adafruit; DeviceSetName: C-US; Package: C025-025X050
footprint C025-025X050
pins: 1, 2

## C-US025-030X050
designator C?, comment CAPACITOR, American symbol
GateName_1: G$1; SymbolName_1: C-US; DeviceName: 025-030X050; LibraryName: adafruit; DeviceSetName: C-US; Package: C025-030X050
footprint C025-030X050
pins: 1, 2

## C-US025-040X050
designator C?, comment CAPACITOR, American symbol
GateName_1: G$1; SymbolName_1: C-US; DeviceName: 025-040X050; LibraryName: adafruit; DeviceSetName: C-US; Package: C025-040X050
footprint C025-040X050
pins: 1, 2

## C-US025-050X050
designator C?, comment CAPACITOR, American symbol
GateName_1: G$1; SymbolName_1: C-US; DeviceName: 025-050X050; LibraryName: adafruit; DeviceSetName: C-US; Package: C025-050X050
footprint C025-050X050
pins: 1, 2

## C-US025-060X050
designator C?, comment CAPACITOR, American symbol
GateName_1: G$1; SymbolName_1: C-US; DeviceName: 025-060X050; LibraryName: adafruit; DeviceSetName: C-US; Package: C025-060X050
footprint C025-060X050
pins: 1, 2

## C-US025_050-025X075
designator C?, comment CAPACITOR, American symbol
GateName_1: G$1; SymbolName_1: C-US; DeviceName: 025_050-025X075; LibraryName: adafruit; DeviceSetName: C-US; Package: C025_050-025X075
footprint C025_050-025X075
pins: 1, 2

## C-US025_050-035X075
designator C?, comment CAPACITOR, American symbol
GateName_1: G$1; SymbolName_1: C-US; DeviceName: 025_050-035X075; LibraryName: adafruit; DeviceSetName: C-US; Package: C025_050-035X075
footprint C025_050-035X075
pins: 1, 2

## C-US025_050-045X075
designator C?, comment CAPACITOR, American symbol
GateName_1: G$1; SymbolName_1: C-US; DeviceName: 025_050-045X075; LibraryName: adafruit; DeviceSetName: C-US; Package: C025_050-045X075
footprint C025_050-045X075
pins: 1, 2

## C-US025_050-055X075
designator C?, comment CAPACITOR, American symbol
GateName_1: G$1; SymbolName_1: C-US; DeviceName: 025_050-055X075; LibraryName: adafruit; DeviceSetName: C-US; Package: C025_050-055X075
footprint C025_050-055X075
pins: 1, 2

## C-US050-024X044
designator C?, comment CAPACITOR, American symbol
GateName_1: G$1; SymbolName_1: C-US; DeviceName: 050-024X044; LibraryName: adafruit; DeviceSetName: C-US; Package: C050-024X044
footprint C050-024X044
pins: 1, 2

## C-US050-025X075
designator C?, comment CAPACITOR, American symbol
GateName_1: G$1; SymbolName_1: C-US; DeviceName: 050-025X075; LibraryName: adafruit; DeviceSetName: C-US; Package: C050-025X075
footprint C050-025X075
pins: 1, 2

## C-US050-030X075
designator C?, comment CAPACITOR, American symbol
GateName_1: G$1; SymbolName_1: C-US; DeviceName: 050-030X075; LibraryName: adafruit; DeviceSetName: C-US; Package: C050-030X075
footprint C050-030X075
pins: 1, 2

## C-US050-035X075
designator C?, comment CAPACITOR, American symbol
GateName_1: G$1; SymbolName_1: C-US; DeviceName: 050-035X075; LibraryName: adafruit; DeviceSetName: C-US; Package: C050-035X075
footprint C050-035X075
pins: 1, 2

## C-US050-045X075
designator C?, comment CAPACITOR, American symbol
GateName_1: G$1; SymbolName_1: C-US; DeviceName: 050-045X075; LibraryName: adafruit; DeviceSetName: C-US; Package: C050-045X075
footprint C050-045X075
pins: 1, 2

## C-US050-050X075
designator C?, comment CAPACITOR, American symbol
GateName_1: G$1; SymbolName_1: C-US; DeviceName: 050-050X075; LibraryName: adafruit; DeviceSetName: C-US; Package: C050-050X075
footprint C050-050X075
pins: 1, 2

## C-US050-055X075
designator C?, comment CAPACITOR, American symbol
GateName_1: G$1; SymbolName_1: C-US; DeviceName: 050-055X075; LibraryName: adafruit; DeviceSetName: C-US; Package: C050-055X075
footprint C050-055X075
pins: 1, 2

## C-US050-075X075
designator C?, comment CAPACITOR, American symbol
GateName_1: G$1; SymbolName_1: C-US; DeviceName: 050-075X075; LibraryName: adafruit; DeviceSetName: C-US; Package: C050-075X075
footprint C050-075X075
pins: 1, 2

## C-US050H075X075
designator C?, comment CAPACITOR, American symbol
GateName_1: G$1; SymbolName_1: C-US; DeviceName: 050H075X075; LibraryName: adafruit; DeviceSetName: C-US; Package: C050H075X075
footprint C050H075X075
pins: 1, 2

## C-US075-032X103
designator C?, comment CAPACITOR, American symbol
GateName_1: G$1; SymbolName_1: C-US; DeviceName: 075-032X103; LibraryName: adafruit; DeviceSetName: C-US; Package: C075-032X103
footprint C075-032X103
pins: 1, 2

## C-US075-042X103
designator C?, comment CAPACITOR, American symbol
GateName_1: G$1; SymbolName_1: C-US; DeviceName: 075-042X103; LibraryName: adafruit; DeviceSetName: C-US; Package: C075-042X103
footprint C075-042X103
pins: 1, 2

## C-US075-052X106
designator C?, comment CAPACITOR, American symbol
GateName_1: G$1; SymbolName_1: C-US; DeviceName: 075-052X106; LibraryName: adafruit; DeviceSetName: C-US; Package: C075-052X106
footprint C075-052X106
pins: 1, 2

## C-US075-063X106
designator C?, comment CAPACITOR, American symbol
GateName_1: G$1; SymbolName_1: C-US; DeviceName: 075-063X106; LibraryName: adafruit; DeviceSetName: C-US; Package: C075-063X106
footprint C075-063X106
pins: 1, 2

## C-US102-043X133
designator C?, comment CAPACITOR, American symbol
GateName_1: G$1; SymbolName_1: C-US; DeviceName: 102-043X133; LibraryName: adafruit; DeviceSetName: C-US; Package: C102-043X133
footprint C102-043X133
pins: 1, 2

## C-US102-054X133
designator C?, comment CAPACITOR, American symbol
GateName_1: G$1; SymbolName_1: C-US; DeviceName: 102-054X133; LibraryName: adafruit; DeviceSetName: C-US; Package: C102-054X133
footprint C102-054X133
pins: 1, 2

## C-US102-064X133
designator C?, comment CAPACITOR, American symbol
GateName_1: G$1; SymbolName_1: C-US; DeviceName: 102-064X133; LibraryName: adafruit; DeviceSetName: C-US; Package: C102-064X133
footprint C102-064X133
pins: 1, 2

## C-US102_152-062X184
designator C?, comment CAPACITOR, American symbol
GateName_1: G$1; SymbolName_1: C-US; DeviceName: 102_152-062X184; LibraryName: adafruit; DeviceSetName: C-US; Package: C102_152-062X184
footprint C102_152-062X184
pins: 1, 2

## C-US150-054X183
designator C?, comment CAPACITOR, American symbol
GateName_1: G$1; SymbolName_1: C-US; DeviceName: 150-054X183; LibraryName: adafruit; DeviceSetName: C-US; Package: C150-054X183
footprint C150-054X183
pins: 1, 2

## C-US150-064X183
designator C?, comment CAPACITOR, American symbol
GateName_1: G$1; SymbolName_1: C-US; DeviceName: 150-064X183; LibraryName: adafruit; DeviceSetName: C-US; Package: C150-064X183
footprint C150-064X183
pins: 1, 2

## C-US150-072X183
designator C?, comment CAPACITOR, American symbol
GateName_1: G$1; SymbolName_1: C-US; DeviceName: 150-072X183; LibraryName: adafruit; DeviceSetName: C-US; Package: C150-072X183
footprint C150-072X183
pins: 1, 2

## C-US150-084X183
designator C?, comment CAPACITOR, American symbol
GateName_1: G$1; SymbolName_1: C-US; DeviceName: 150-084X183; LibraryName: adafruit; DeviceSetName: C-US; Package: C150-084X183
footprint C150-084X183
pins: 1, 2

## C-US150-091X182
designator C?, comment CAPACITOR, American symbol
GateName_1: G$1; SymbolName_1: C-US; DeviceName: 150-091X182; LibraryName: adafruit; DeviceSetName: C-US; Package: C150-091X182
footprint C150-091X182
pins: 1, 2

## C-US225-062X268
designator C?, comment CAPACITOR, American symbol
GateName_1: G$1; SymbolName_1: C-US; DeviceName: 225-062X268; LibraryName: adafruit; DeviceSetName: C-US; Package: C225-062X268
footprint C225-062X268
pins: 1, 2

## C-US225-074X268
designator C?, comment CAPACITOR, American symbol
GateName_1: G$1; SymbolName_1: C-US; DeviceName: 225-074X268; LibraryName: adafruit; DeviceSetName: C-US; Package: C225-074X268
footprint C225-074X268
pins: 1, 2

## C-US225-087X268
designator C?, comment CAPACITOR, American symbol
GateName_1: G$1; SymbolName_1: C-US; DeviceName: 225-087X268; LibraryName: adafruit; DeviceSetName: C-US; Package: C225-087X268
footprint C225-087X268
pins: 1, 2

## C-US225-108X268
designator C?, comment CAPACITOR, American symbol
GateName_1: G$1; SymbolName_1: C-US; DeviceName: 225-108X268; LibraryName: adafruit; DeviceSetName: C-US; Package: C225-108X268
footprint C225-108X268
pins: 1, 2

## C-US225-113X268
designator C?, comment CAPACITOR, American symbol
GateName_1: G$1; SymbolName_1: C-US; DeviceName: 225-113X268; LibraryName: adafruit; DeviceSetName: C-US; Package: C225-113X268
footprint C225-113X268
pins: 1, 2

## C-US275-093X316
designator C?, comment CAPACITOR, American symbol
GateName_1: G$1; SymbolName_1: C-US; DeviceName: 275-093X316; LibraryName: adafruit; DeviceSetName: C-US; Package: C275-093X316
footprint C275-093X316
pins: 1, 2

## C-US275-113X316
designator C?, comment CAPACITOR, American symbol
GateName_1: G$1; SymbolName_1: C-US; DeviceName: 275-113X316; LibraryName: adafruit; DeviceSetName: C-US; Package: C275-113X316
footprint C275-113X316
pins: 1, 2

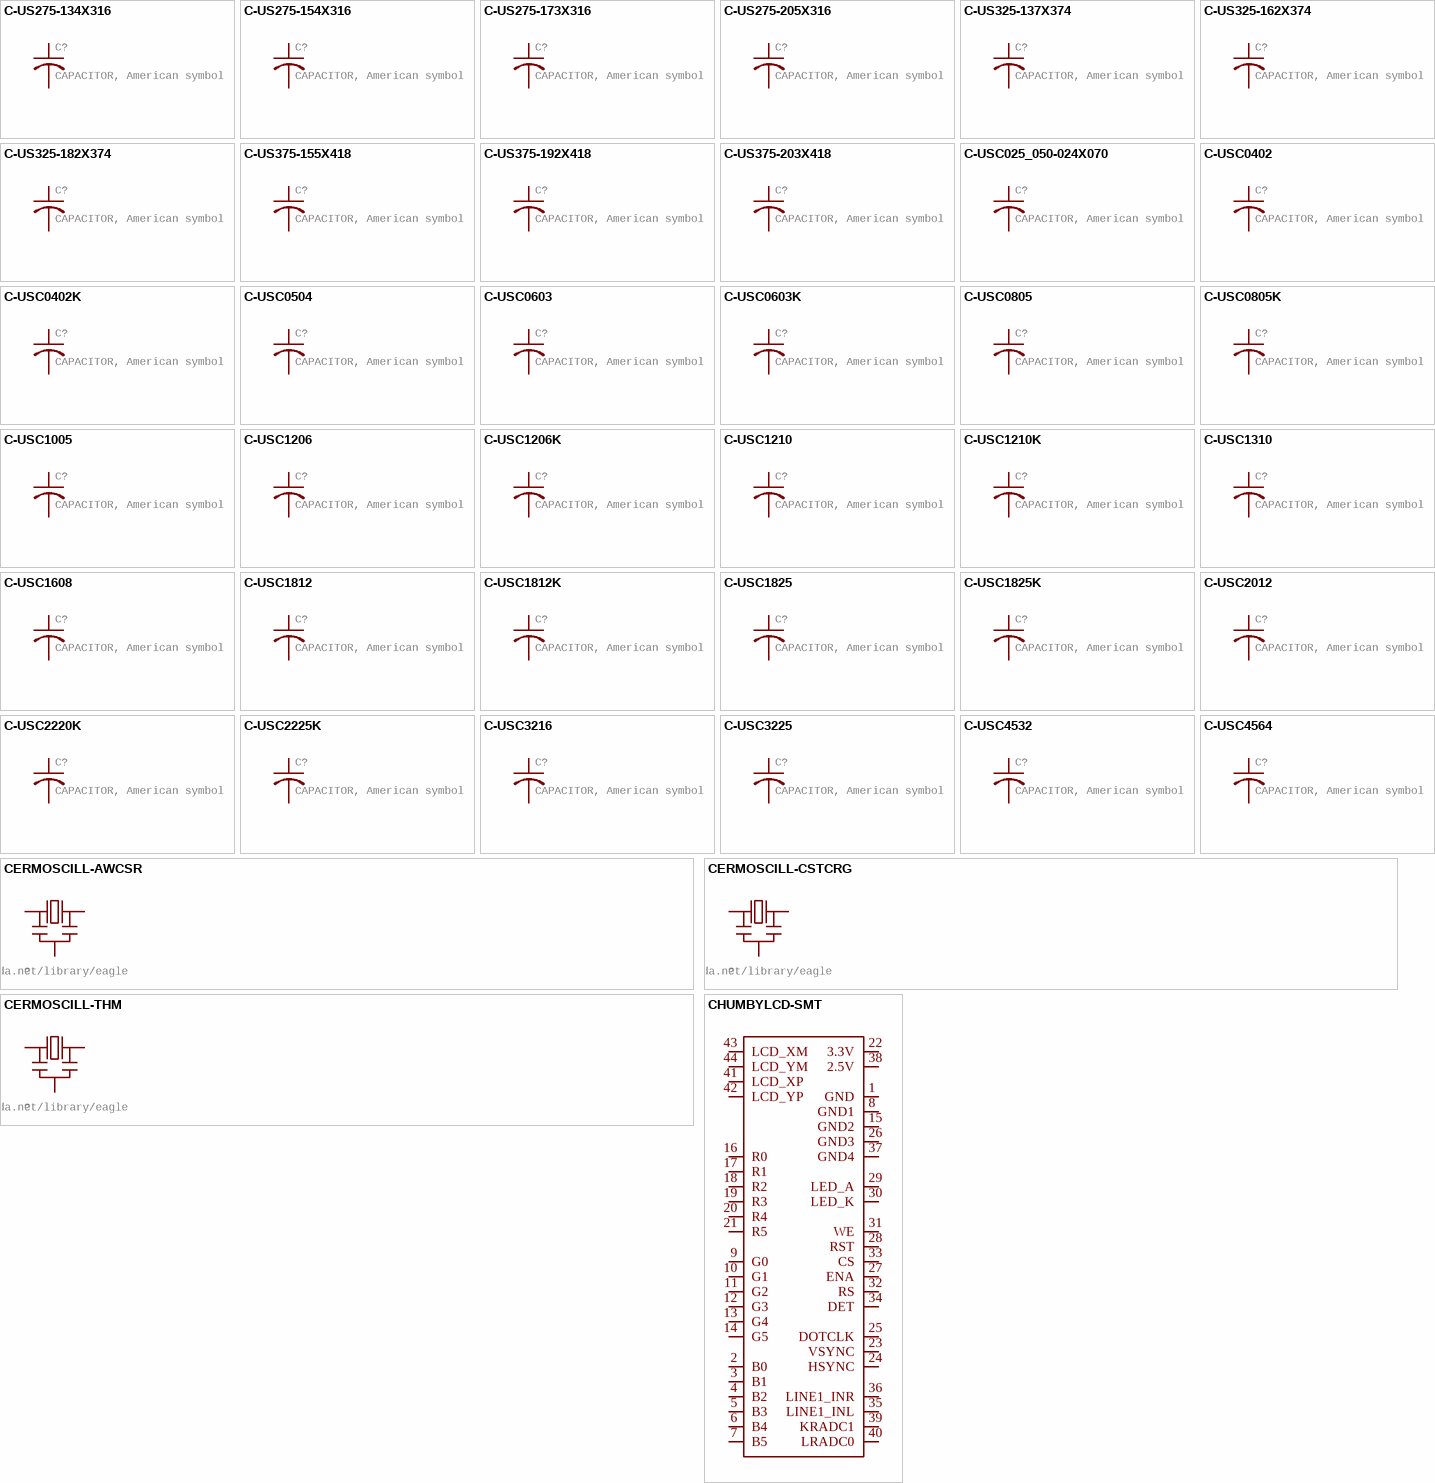
[diagram p168: symbols C-US275-134X316 to CHUMBYLCD-SMT]

## C-US275-134X316
designator C?, comment CAPACITOR, American symbol
GateName_1: G$1; SymbolName_1: C-US; DeviceName: 275-134X316; LibraryName: adafruit; DeviceSetName: C-US; Package: C275-134X316
footprint C275-134X316
pins: 1, 2

## C-US275-154X316
designator C?, comment CAPACITOR, American symbol
GateName_1: G$1; SymbolName_1: C-US; DeviceName: 275-154X316; LibraryName: adafruit; DeviceSetName: C-US; Package: C275-154X316
footprint C275-154X316
pins: 1, 2

## C-US275-173X316
designator C?, comment CAPACITOR, American symbol
GateName_1: G$1; SymbolName_1: C-US; DeviceName: 275-173X316; LibraryName: adafruit; DeviceSetName: C-US; Package: C275-173X316
footprint C275-173X316
pins: 1, 2

## C-US275-205X316
designator C?, comment CAPACITOR, American symbol
GateName_1: G$1; SymbolName_1: C-US; DeviceName: 275-205X316; LibraryName: adafruit; DeviceSetName: C-US; Package: C275-205X316
footprint C275-205X316
pins: 1, 2

## C-US325-137X374
designator C?, comment CAPACITOR, American symbol
GateName_1: G$1; SymbolName_1: C-US; DeviceName: 325-137X374; LibraryName: adafruit; DeviceSetName: C-US; Package: C325-137X374
footprint C325-137X374
pins: 1, 2

## C-US325-162X374
designator C?, comment CAPACITOR, American symbol
GateName_1: G$1; SymbolName_1: C-US; DeviceName: 325-162X374; LibraryName: adafruit; DeviceSetName: C-US; Package: C325-162X374
footprint C325-162X374
pins: 1, 2

## C-US325-182X374
designator C?, comment CAPACITOR, American symbol
GateName_1: G$1; SymbolName_1: C-US; DeviceName: 325-182X374; LibraryName: adafruit; DeviceSetName: C-US; Package: C325-182X374
footprint C325-182X374
pins: 1, 2

## C-US375-155X418
designator C?, comment CAPACITOR, American symbol
GateName_1: G$1; SymbolName_1: C-US; DeviceName: 375-155X418; LibraryName: adafruit; DeviceSetName: C-US; Package: C375-155X418
footprint C375-155X418
pins: 1, 2

## C-US375-192X418
designator C?, comment CAPACITOR, American symbol
GateName_1: G$1; SymbolName_1: C-US; DeviceName: 375-192X418; LibraryName: adafruit; DeviceSetName: C-US; Package: C375-192X418
footprint C375-192X418
pins: 1, 2

## C-US375-203X418
designator C?, comment CAPACITOR, American symbol
GateName_1: G$1; SymbolName_1: C-US; DeviceName: 375-203X418; LibraryName: adafruit; DeviceSetName: C-US; Package: C375-203X418
footprint C375-203X418
pins: 1, 2

## C-USC025_050-024X070
designator C?, comment CAPACITOR, American symbol
GateName_1: G$1; SymbolName_1: C-US; DeviceName: C025_050-024X070; LibraryName: adafruit; DeviceSetName: C-US; Package: C025_050-024X070
footprint C025_050-024X070
pins: 1, 2

## C-USC0402
designator C?, comment CAPACITOR, American symbol
GateName_1: G$1; SymbolName_1: C-US; DeviceName: C0402; LibraryName: adafruit; DeviceSetName: C-US; Package: C0402
footprint C0402
pins: 1, 2

## C-USC0402K
designator C?, comment CAPACITOR, American symbol
GateName_1: G$1; SymbolName_1: C-US; DeviceName: C0402K; LibraryName: adafruit; DeviceSetName: C-US; Package: C0402K
footprint C0402K
pins: 1, 2

## C-USC0504
designator C?, comment CAPACITOR, American symbol
GateName_1: G$1; SymbolName_1: C-US; DeviceName: C0504; LibraryName: adafruit; DeviceSetName: C-US; Package: C0504
footprint C0504
pins: 1, 2

## C-USC0603
designator C?, comment CAPACITOR, American symbol
GateName_1: G$1; SymbolName_1: C-US; DeviceName: C0603; LibraryName: adafruit; DeviceSetName: C-US; Package: C0603
footprint C0603
pins: 1, 2

## C-USC0603K
designator C?, comment CAPACITOR, American symbol
GateName_1: G$1; SymbolName_1: C-US; DeviceName: C0603K; LibraryName: adafruit; DeviceSetName: C-US; Package: C0603K
footprint C0603K
pins: 1, 2

## C-USC0805
designator C?, comment CAPACITOR, American symbol
GateName_1: G$1; SymbolName_1: C-US; DeviceName: C0805; LibraryName: adafruit; DeviceSetName: C-US; Package: C0805
footprint C0805
pins: 1, 2

## C-USC0805K
designator C?, comment CAPACITOR, American symbol
GateName_1: G$1; SymbolName_1: C-US; DeviceName: C0805K; LibraryName: adafruit; DeviceSetName: C-US; Package: C0805K
footprint C0805K
pins: 1, 2

## C-USC1005
designator C?, comment CAPACITOR, American symbol
GateName_1: G$1; SymbolName_1: C-US; DeviceName: C1005; LibraryName: adafruit; DeviceSetName: C-US; Package: C1005
footprint C1005
pins: 1, 2

## C-USC1206
designator C?, comment CAPACITOR, American symbol
GateName_1: G$1; SymbolName_1: C-US; DeviceName: C1206; LibraryName: adafruit; DeviceSetName: C-US; Package: C1206
footprint C1206
pins: 1, 2

## C-USC1206K
designator C?, comment CAPACITOR, American symbol
GateName_1: G$1; SymbolName_1: C-US; DeviceName: C1206K; LibraryName: adafruit; DeviceSetName: C-US; Package: C1206K
footprint C1206K
pins: 1, 2

## C-USC1210
designator C?, comment CAPACITOR, American symbol
GateName_1: G$1; SymbolName_1: C-US; DeviceName: C1210; LibraryName: adafruit; DeviceSetName: C-US; Package: C1210
footprint C1210
pins: 1, 2

## C-USC1210K
designator C?, comment CAPACITOR, American symbol
GateName_1: G$1; SymbolName_1: C-US; DeviceName: C1210K; LibraryName: adafruit; DeviceSetName: C-US; Package: C1210K
footprint C1210K
pins: 1, 2

## C-USC1310
designator C?, comment CAPACITOR, American symbol
GateName_1: G$1; SymbolName_1: C-US; DeviceName: C1310; LibraryName: adafruit; DeviceSetName: C-US; Package: C1310
footprint C1310
pins: 1, 2

## C-USC1608
designator C?, comment CAPACITOR, American symbol
GateName_1: G$1; SymbolName_1: C-US; DeviceName: C1608; LibraryName: adafruit; DeviceSetName: C-US; Package: C1608
footprint C1608
pins: 1, 2

## C-USC1812
designator C?, comment CAPACITOR, American symbol
GateName_1: G$1; SymbolName_1: C-US; DeviceName: C1812; LibraryName: adafruit; DeviceSetName: C-US; Package: C1812
footprint C1812
pins: 1, 2

## C-USC1812K
designator C?, comment CAPACITOR, American symbol
GateName_1: G$1; SymbolName_1: C-US; DeviceName: C1812K; LibraryName: adafruit; DeviceSetName: C-US; Package: C1812K
footprint C1812K
pins: 1, 2

## C-USC1825
designator C?, comment CAPACITOR, American symbol
GateName_1: G$1; SymbolName_1: C-US; DeviceName: C1825; LibraryName: adafruit; DeviceSetName: C-US; Package: C1825
footprint C1825
pins: 1, 2

## C-USC1825K
designator C?, comment CAPACITOR, American symbol
GateName_1: G$1; SymbolName_1: C-US; DeviceName: C1825K; LibraryName: adafruit; DeviceSetName: C-US; Package: C1825K
footprint C1825K
pins: 1, 2

## C-USC2012
designator C?, comment CAPACITOR, American symbol
GateName_1: G$1; SymbolName_1: C-US; DeviceName: C2012; LibraryName: adafruit; DeviceSetName: C-US; Package: C2012
footprint C2012
pins: 1, 2

## C-USC2220K
designator C?, comment CAPACITOR, American symbol
GateName_1: G$1; SymbolName_1: C-US; DeviceName: C2220K; LibraryName: adafruit; DeviceSetName: C-US; Package: C2220K
footprint C2220K
pins: 1, 2

## C-USC2225K
designator C?, comment CAPACITOR, American symbol
GateName_1: G$1; SymbolName_1: C-US; DeviceName: C2225K; LibraryName: adafruit; DeviceSetName: C-US; Package: C2225K
footprint C2225K
pins: 1, 2

## C-USC3216
designator C?, comment CAPACITOR, American symbol
GateName_1: G$1; SymbolName_1: C-US; DeviceName: C3216; LibraryName: adafruit; DeviceSetName: C-US; Package: C3216
footprint C3216
pins: 1, 2

## C-USC3225
designator C?, comment CAPACITOR, American symbol
GateName_1: G$1; SymbolName_1: C-US; DeviceName: C3225; LibraryName: adafruit; DeviceSetName: C-US; Package: C3225
footprint C3225
pins: 1, 2

## C-USC4532
designator C?, comment CAPACITOR, American symbol
GateName_1: G$1; SymbolName_1: C-US; DeviceName: C4532; LibraryName: adafruit; DeviceSetName: C-US; Package: C4532
footprint C4532
pins: 1, 2

## C-USC4564
designator C?, comment CAPACITOR, American symbol
GateName_1: G$1; SymbolName_1: C-US; DeviceName: C4564; LibraryName: adafruit; DeviceSetName: C-US; Package: C4564
footprint C4564
pins: 1, 2

## CERMOSCILL-AWCSR
designator ?, comment Ceramic oscillator with built in capacitors such as ZTT-12MHz    http://www.ladyada.net/library/eagle
GateName_1: G$1; SymbolName_1: CAPOSC; DeviceName: -AWCSR; DeviceSetName: CERMOSCILL; LibraryName: adafruit; Package: AWCSR
footprint AWCSR
pins: 1 IN (io), 2 GND (io), 3 OUT (io)

## CERMOSCILL-CSTCRG
designator ?, comment Ceramic oscillator with built in capacitors such as ZTT-12MHz    http://www.ladyada.net/library/eagle
GateName_1: G$1; SymbolName_1: CAPOSC; DeviceName: -CSTCRG; DeviceSetName: CERMOSCILL; LibraryName: adafruit; Package: CSTCR-G
footprint CSTCR-G
pins: 1 IN (io), 2 GND (io), 3 OUT (io)

## CERMOSCILL-THM
designator ?, comment Ceramic oscillator with built in capacitors such as ZTT-12MHz    http://www.ladyada.net/library/eagle
GateName_1: G$1; SymbolName_1: CAPOSC; DeviceName: -THM; DeviceSetName: CERMOSCILL; LibraryName: adafruit; Package: CERM_OSC
footprint CERM_OSC
pins: P$1 IN (io), P$2 GND (io), P$3 OUT (io)

## CHUMBYLCD-SMT
designator ?
GateName_1: G$1; SymbolName_1: CHUMBYVIDEO; DeviceName: -SMT; DeviceSetName: CHUMBYLCD; LibraryName: adafruit; Package: 2X22-SMT
footprint 2X22-SMT
pins: 1 GND (io), 2 B0 (io), 3 B1 (io), 4 B2 (io), 5 B3 (io), 6 B4 (io), 7 B5 (io), 8 GND1 (io), 9 G0 (io), 10 G1 (io), 11 G2 (io), 12 G3 (io), 13 G4 (io), 14 G5 (io), 15 GND2 (io), 16 R0 (io), 17 R1 (io), 18 R2 (io), 19 R3 (io), 20 R4 (io), 21 R5 (io), 22 3.3V (io), 23 VSYNC (io), 24 HSYNC (io), 25 DOTCLK (io), 26 GND3 (io), 27 ENA (io), 28 RST (io), 29 LED_A (io), 30 LED_K (io), 31 WE (io), 32 RS (io), 33 CS (io), 34 DET (io), 35 LINE1_INL (io), 36 LINE1_INR (io), 37 GND4 (io), 38 2.5V (io), 39 KRADC1 (io), 40 LRADC0 (io), 41 LCD_XP (io), 42 LCD_YP (io), 43 LCD_XM (io), 44 LCD_YM (io)

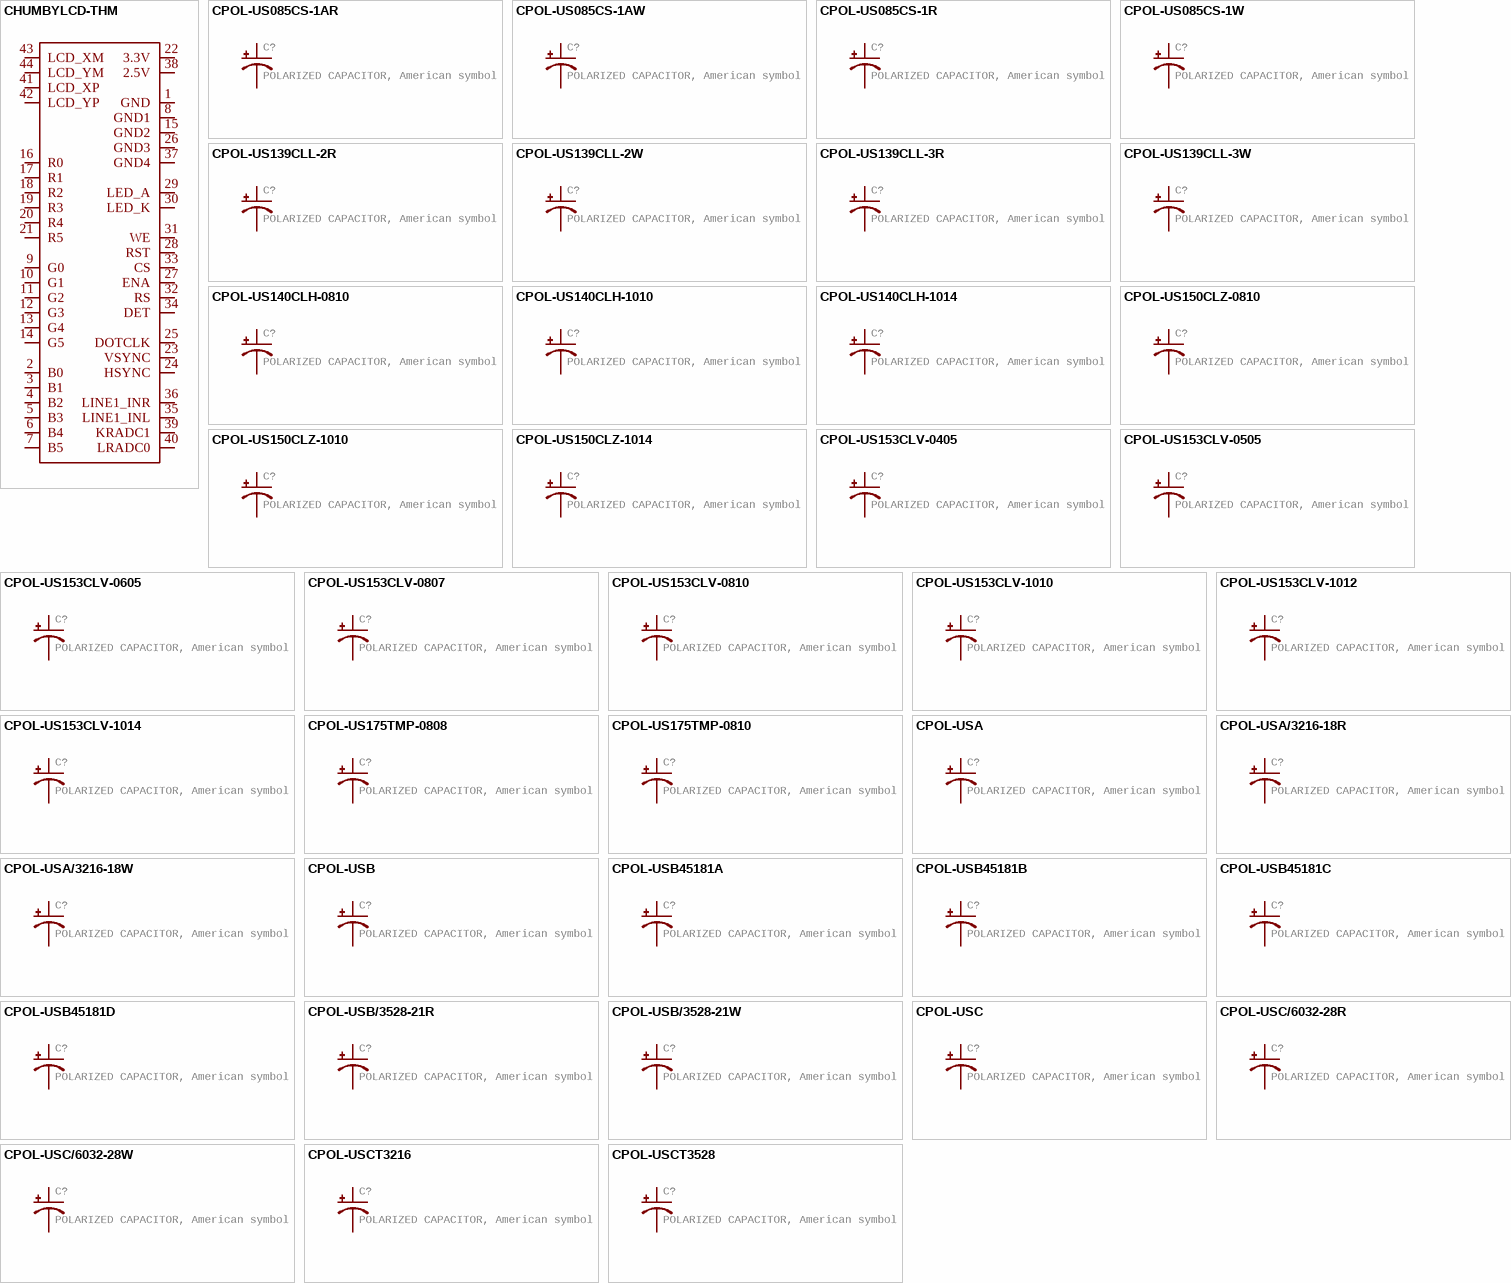
[diagram p169: symbols CHUMBYLCD-THM to CPOL-USCT3528]

## CHUMBYLCD-THM
designator ?
GateName_1: G$1; SymbolName_1: CHUMBYVIDEO; DeviceName: -THM; DeviceSetName: CHUMBYLCD; LibraryName: adafruit; Package: 2X22
footprint 2X22
pins: 1 GND (io), 2 B0 (io), 3 B1 (io), 4 B2 (io), 5 B3 (io), 6 B4 (io), 7 B5 (io), 8 GND1 (io), 9 G0 (io), 10 G1 (io), 11 G2 (io), 12 G3 (io), 13 G4 (io), 14 G5 (io), 15 GND2 (io), 16 R0 (io), 17 R1 (io), 18 R2 (io), 19 R3 (io), 20 R4 (io), 21 R5 (io), 22 3.3V (io), 23 VSYNC (io), 24 HSYNC (io), 25 DOTCLK (io), 26 GND3 (io), 27 ENA (io), 28 RST (io), 29 LED_A (io), 30 LED_K (io), 31 WE (io), 32 RS (io), 33 CS (io), 34 DET (io), 35 LINE1_INL (io), 36 LINE1_INR (io), 37 GND4 (io), 38 2.5V (io), 39 KRADC1 (io), 40 LRADC0 (io), 41 LCD_XP (io), 42 LCD_YP (io), 43 LCD_XM (io), 44 LCD_YM (io)

## CPOL-US085CS-1AR
designator C?, comment POLARIZED CAPACITOR, American symbol
GateName_1: G$1; SymbolName_1: CPOL-US; DeviceName: 085CS-1AR; LibraryName: adafruit; DeviceSetName: CPOL-US; Package: 085CS_1AR
footprint 085CS_1AR
pins: +, -

## CPOL-US085CS-1AW
designator C?, comment POLARIZED CAPACITOR, American symbol
GateName_1: G$1; SymbolName_1: CPOL-US; DeviceName: 085CS-1AW; LibraryName: adafruit; DeviceSetName: CPOL-US; Package: 085CS_1AW
footprint 085CS_1AW
pins: +, -

## CPOL-US085CS-1R
designator C?, comment POLARIZED CAPACITOR, American symbol
GateName_1: G$1; SymbolName_1: CPOL-US; DeviceName: 085CS-1R; LibraryName: adafruit; DeviceSetName: CPOL-US; Package: 085CS_1R
footprint 085CS_1R
pins: +, -

## CPOL-US085CS-1W
designator C?, comment POLARIZED CAPACITOR, American symbol
GateName_1: G$1; SymbolName_1: CPOL-US; DeviceName: 085CS-1W; LibraryName: adafruit; DeviceSetName: CPOL-US; Package: 085CS_1W
footprint 085CS_1W
pins: +, -

## CPOL-US139CLL-2R
designator C?, comment POLARIZED CAPACITOR, American symbol
GateName_1: G$1; SymbolName_1: CPOL-US; DeviceName: 139CLL-2R; LibraryName: adafruit; DeviceSetName: CPOL-US; Package: 139CLL-2R
footprint 139CLL-2R
pins: +, -

## CPOL-US139CLL-2W
designator C?, comment POLARIZED CAPACITOR, American symbol
GateName_1: G$1; SymbolName_1: CPOL-US; DeviceName: 139CLL-2W; LibraryName: adafruit; DeviceSetName: CPOL-US; Package: 139CLL-2W
footprint 139CLL-2W
pins: +, -

## CPOL-US139CLL-3R
designator C?, comment POLARIZED CAPACITOR, American symbol
GateName_1: G$1; SymbolName_1: CPOL-US; DeviceName: 139CLL-3R; LibraryName: adafruit; DeviceSetName: CPOL-US; Package: 139CLL-3R
footprint 139CLL-3R
pins: +, -

## CPOL-US139CLL-3W
designator C?, comment POLARIZED CAPACITOR, American symbol
GateName_1: G$1; SymbolName_1: CPOL-US; DeviceName: 139CLL-3W; LibraryName: adafruit; DeviceSetName: CPOL-US; Package: 139CLL-3W
footprint 139CLL-3W
pins: +, -

## CPOL-US140CLH-0810
designator C?, comment POLARIZED CAPACITOR, American symbol
GateName_1: G$1; SymbolName_1: CPOL-US; DeviceName: 140CLH-0810; LibraryName: adafruit; DeviceSetName: CPOL-US; Package: 140CLH-0810
footprint 140CLH-0810
pins: +, -

## CPOL-US140CLH-1010
designator C?, comment POLARIZED CAPACITOR, American symbol
GateName_1: G$1; SymbolName_1: CPOL-US; DeviceName: 140CLH-1010; LibraryName: adafruit; DeviceSetName: CPOL-US; Package: 140CLH-1010
footprint 140CLH-1010
pins: +, -

## CPOL-US140CLH-1014
designator C?, comment POLARIZED CAPACITOR, American symbol
GateName_1: G$1; SymbolName_1: CPOL-US; DeviceName: 140CLH-1014; LibraryName: adafruit; DeviceSetName: CPOL-US; Package: 140CLH-1014
footprint 140CLH-1014
pins: +, -

## CPOL-US150CLZ-0810
designator C?, comment POLARIZED CAPACITOR, American symbol
GateName_1: G$1; SymbolName_1: CPOL-US; DeviceName: 150CLZ-0810; LibraryName: adafruit; DeviceSetName: CPOL-US; Package: 150CLZ-0810
footprint 150CLZ-0810
pins: +, -

## CPOL-US150CLZ-1010
designator C?, comment POLARIZED CAPACITOR, American symbol
GateName_1: G$1; SymbolName_1: CPOL-US; DeviceName: 150CLZ-1010; LibraryName: adafruit; DeviceSetName: CPOL-US; Package: 150CLZ-1010
footprint 150CLZ-1010
pins: +, -

## CPOL-US150CLZ-1014
designator C?, comment POLARIZED CAPACITOR, American symbol
GateName_1: G$1; SymbolName_1: CPOL-US; DeviceName: 150CLZ-1014; LibraryName: adafruit; DeviceSetName: CPOL-US; Package: 150CLZ-1014
footprint 150CLZ-1014
pins: +, -

## CPOL-US153CLV-0405
designator C?, comment POLARIZED CAPACITOR, American symbol
GateName_1: G$1; SymbolName_1: CPOL-US; DeviceName: 153CLV-0405; LibraryName: adafruit; DeviceSetName: CPOL-US; Package: 153CLV-0405
footprint 153CLV-0405
pins: +, -

## CPOL-US153CLV-0505
designator C?, comment POLARIZED CAPACITOR, American symbol
GateName_1: G$1; SymbolName_1: CPOL-US; DeviceName: 153CLV-0505; LibraryName: adafruit; DeviceSetName: CPOL-US; Package: 153CLV-0505
footprint 153CLV-0505
pins: +, -

## CPOL-US153CLV-0605
designator C?, comment POLARIZED CAPACITOR, American symbol
GateName_1: G$1; SymbolName_1: CPOL-US; DeviceName: 153CLV-0605; LibraryName: adafruit; DeviceSetName: CPOL-US; Package: 153CLV-0605
footprint 153CLV-0605
pins: +, -

## CPOL-US153CLV-0807
designator C?, comment POLARIZED CAPACITOR, American symbol
GateName_1: G$1; SymbolName_1: CPOL-US; DeviceName: 153CLV-0807; LibraryName: adafruit; DeviceSetName: CPOL-US; Package: 153CLV-0807
footprint 153CLV-0807
pins: +, -

## CPOL-US153CLV-0810
designator C?, comment POLARIZED CAPACITOR, American symbol
GateName_1: G$1; SymbolName_1: CPOL-US; DeviceName: 153CLV-0810; LibraryName: adafruit; DeviceSetName: CPOL-US; Package: 153CLV-0810
footprint 153CLV-0810
pins: +, -

## CPOL-US153CLV-1010
designator C?, comment POLARIZED CAPACITOR, American symbol
GateName_1: G$1; SymbolName_1: CPOL-US; DeviceName: 153CLV-1010; LibraryName: adafruit; DeviceSetName: CPOL-US; Package: 153CLV-1010
footprint 153CLV-1010
pins: +, -

## CPOL-US153CLV-1012
designator C?, comment POLARIZED CAPACITOR, American symbol
GateName_1: G$1; SymbolName_1: CPOL-US; DeviceName: 153CLV-1012; LibraryName: adafruit; DeviceSetName: CPOL-US; Package: 153CLV-1012
footprint 153CLV-1012
pins: +, -

## CPOL-US153CLV-1014
designator C?, comment POLARIZED CAPACITOR, American symbol
GateName_1: G$1; SymbolName_1: CPOL-US; DeviceName: 153CLV-1014; LibraryName: adafruit; DeviceSetName: CPOL-US; Package: 153CLV-1014
footprint 153CLV-1014
pins: +, -

## CPOL-US175TMP-0808
designator C?, comment POLARIZED CAPACITOR, American symbol
GateName_1: G$1; SymbolName_1: CPOL-US; DeviceName: 175TMP-0808; LibraryName: adafruit; DeviceSetName: CPOL-US; Package: 175TMP-0808
footprint 175TMP-0808
pins: +, -

## CPOL-US175TMP-0810
designator C?, comment POLARIZED CAPACITOR, American symbol
GateName_1: G$1; SymbolName_1: CPOL-US; DeviceName: 175TMP-0810; LibraryName: adafruit; DeviceSetName: CPOL-US; Package: 175TMP-0810
footprint 175TMP-0810
pins: +, -

## CPOL-USA
designator C?, comment POLARIZED CAPACITOR, American symbol
GateName_1: G$1; SymbolName_1: CPOL-US; DeviceName: A; LibraryName: adafruit; DeviceSetName: CPOL-US; Package: PANASONIC_A
footprint PANASONIC_A
pins: +, -

## CPOL-USA/3216-18R
designator C?, comment POLARIZED CAPACITOR, American symbol
GateName_1: G$1; SymbolName_1: CPOL-US; DeviceName: A/3216-18R; LibraryName: adafruit; DeviceSetName: CPOL-US; Package: A/3216-18R
footprint A/3216-18R
pins: +, -

## CPOL-USA/3216-18W
designator C?, comment POLARIZED CAPACITOR, American symbol
GateName_1: G$1; SymbolName_1: CPOL-US; DeviceName: A/3216-18W; LibraryName: adafruit; DeviceSetName: CPOL-US; Package: A/3216-18W
footprint A/3216-18W
pins: +, -

## CPOL-USB
designator C?, comment POLARIZED CAPACITOR, American symbol
GateName_1: G$1; SymbolName_1: CPOL-US; DeviceName: B; LibraryName: adafruit; DeviceSetName: CPOL-US; Package: PANASONIC_B
footprint PANASONIC_B
pins: +, -

## CPOL-USB45181A
designator C?, comment POLARIZED CAPACITOR, American symbol
GateName_1: G$1; SymbolName_1: CPOL-US; DeviceName: B45181A; LibraryName: adafruit; DeviceSetName: CPOL-US; Package: B45181A
footprint B45181A
pins: +, -

## CPOL-USB45181B
designator C?, comment POLARIZED CAPACITOR, American symbol
GateName_1: G$1; SymbolName_1: CPOL-US; DeviceName: B45181B; LibraryName: adafruit; DeviceSetName: CPOL-US; Package: B45181B
footprint B45181B
pins: +, -

## CPOL-USB45181C
designator C?, comment POLARIZED CAPACITOR, American symbol
GateName_1: G$1; SymbolName_1: CPOL-US; DeviceName: B45181C; LibraryName: adafruit; DeviceSetName: CPOL-US; Package: B45181C
footprint B45181C
pins: +, -

## CPOL-USB45181D
designator C?, comment POLARIZED CAPACITOR, American symbol
GateName_1: G$1; SymbolName_1: CPOL-US; DeviceName: B45181D; LibraryName: adafruit; DeviceSetName: CPOL-US; Package: B45181D
footprint B45181D
pins: +, -

## CPOL-USB/3528-21R
designator C?, comment POLARIZED CAPACITOR, American symbol
GateName_1: G$1; SymbolName_1: CPOL-US; DeviceName: B/3528-21R; LibraryName: adafruit; DeviceSetName: CPOL-US; Package: B/3528-21R
footprint B/3528-21R
pins: +, -

## CPOL-USB/3528-21W
designator C?, comment POLARIZED CAPACITOR, American symbol
GateName_1: G$1; SymbolName_1: CPOL-US; DeviceName: B/3528-21W; LibraryName: adafruit; DeviceSetName: CPOL-US; Package: B/3528-21W
footprint B/3528-21W
pins: +, -

## CPOL-USC
designator C?, comment POLARIZED CAPACITOR, American symbol
GateName_1: G$1; SymbolName_1: CPOL-US; DeviceName: C; LibraryName: adafruit; DeviceSetName: CPOL-US; Package: PANASONIC_C
footprint PANASONIC_C
pins: +, -

## CPOL-USC/6032-28R
designator C?, comment POLARIZED CAPACITOR, American symbol
GateName_1: G$1; SymbolName_1: CPOL-US; DeviceName: C/6032-28R; LibraryName: adafruit; DeviceSetName: CPOL-US; Package: C/6032-28R
footprint C/6032-28R
pins: +, -

## CPOL-USC/6032-28W
designator C?, comment POLARIZED CAPACITOR, American symbol
GateName_1: G$1; SymbolName_1: CPOL-US; DeviceName: C/6032-28W; LibraryName: adafruit; DeviceSetName: CPOL-US; Package: C/6032-28W
footprint C/6032-28W
pins: +, -

## CPOL-USCT3216
designator C?, comment POLARIZED CAPACITOR, American symbol
GateName_1: G$1; SymbolName_1: CPOL-US; DeviceName: CT3216; LibraryName: adafruit; DeviceSetName: CPOL-US; Package: CT3216
footprint CT3216
pins: +, -

## CPOL-USCT3528
designator C?, comment POLARIZED CAPACITOR, American symbol
GateName_1: G$1; SymbolName_1: CPOL-US; DeviceName: CT3528; LibraryName: adafruit; DeviceSetName: CPOL-US; Package: CT3528
footprint CT3528
pins: +, -

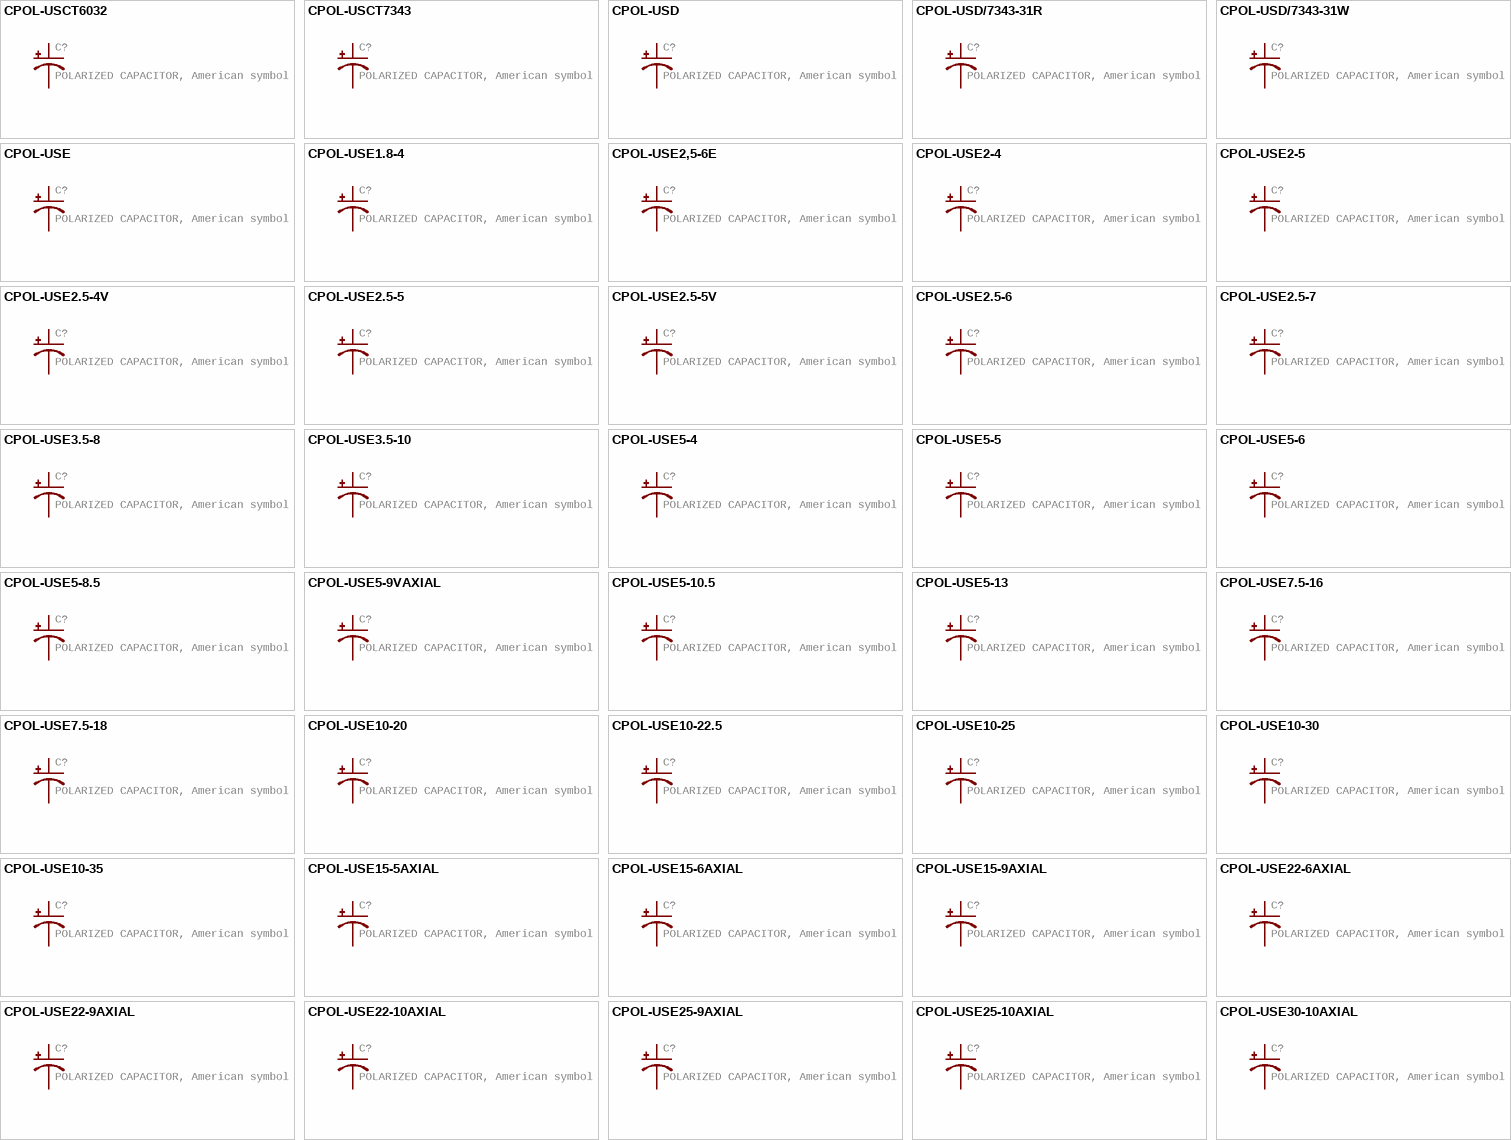
[diagram p170: symbols CPOL-USCT6032 to CPOL-USE30-10AXIAL]

## CPOL-USCT6032
designator C?, comment POLARIZED CAPACITOR, American symbol
GateName_1: G$1; SymbolName_1: CPOL-US; DeviceName: CT6032; LibraryName: adafruit; DeviceSetName: CPOL-US; Package: CT6032
footprint CT6032
pins: +, -

## CPOL-USCT7343
designator C?, comment POLARIZED CAPACITOR, American symbol
GateName_1: G$1; SymbolName_1: CPOL-US; DeviceName: CT7343; LibraryName: adafruit; DeviceSetName: CPOL-US; Package: CT7343
footprint CT7343
pins: +, -

## CPOL-USD
designator C?, comment POLARIZED CAPACITOR, American symbol
GateName_1: G$1; SymbolName_1: CPOL-US; DeviceName: D; LibraryName: adafruit; DeviceSetName: CPOL-US; Package: PANASONIC_D
footprint PANASONIC_D
pins: +, -

## CPOL-USD/7343-31R
designator C?, comment POLARIZED CAPACITOR, American symbol
GateName_1: G$1; SymbolName_1: CPOL-US; DeviceName: D/7343-31R; LibraryName: adafruit; DeviceSetName: CPOL-US; Package: D/7343-31R
footprint D/7343-31R
pins: +, -

## CPOL-USD/7343-31W
designator C?, comment POLARIZED CAPACITOR, American symbol
GateName_1: G$1; SymbolName_1: CPOL-US; DeviceName: D/7343-31W; LibraryName: adafruit; DeviceSetName: CPOL-US; Package: D/7343-31W
footprint D/7343-31W
pins: +, -

## CPOL-USE
designator C?, comment POLARIZED CAPACITOR, American symbol
GateName_1: G$1; SymbolName_1: CPOL-US; DeviceName: E; LibraryName: adafruit; DeviceSetName: CPOL-US; Package: PANASONIC_E
footprint PANASONIC_E
pins: +, -

## CPOL-USE1.8-4
designator C?, comment POLARIZED CAPACITOR, American symbol
GateName_1: G$1; SymbolName_1: CPOL-US; DeviceName: E1.8-4; LibraryName: adafruit; DeviceSetName: CPOL-US; Package: E1,8-4
footprint E1,8-4
pins: +, -

## CPOL-USE2,5-6E
designator C?, comment POLARIZED CAPACITOR, American symbol
GateName_1: G$1; SymbolName_1: CPOL-US; DeviceName: E2,5-6E; LibraryName: adafruit; DeviceSetName: CPOL-US; Package: E2,5-6E
footprint E2,5-6E
pins: +, -